# Altium schematic symbol library Componentes_SOC.SchLib: 216 symbols (part 1 of 3)
Pins are listed as number, name and electrical type; pins without a type are passive.

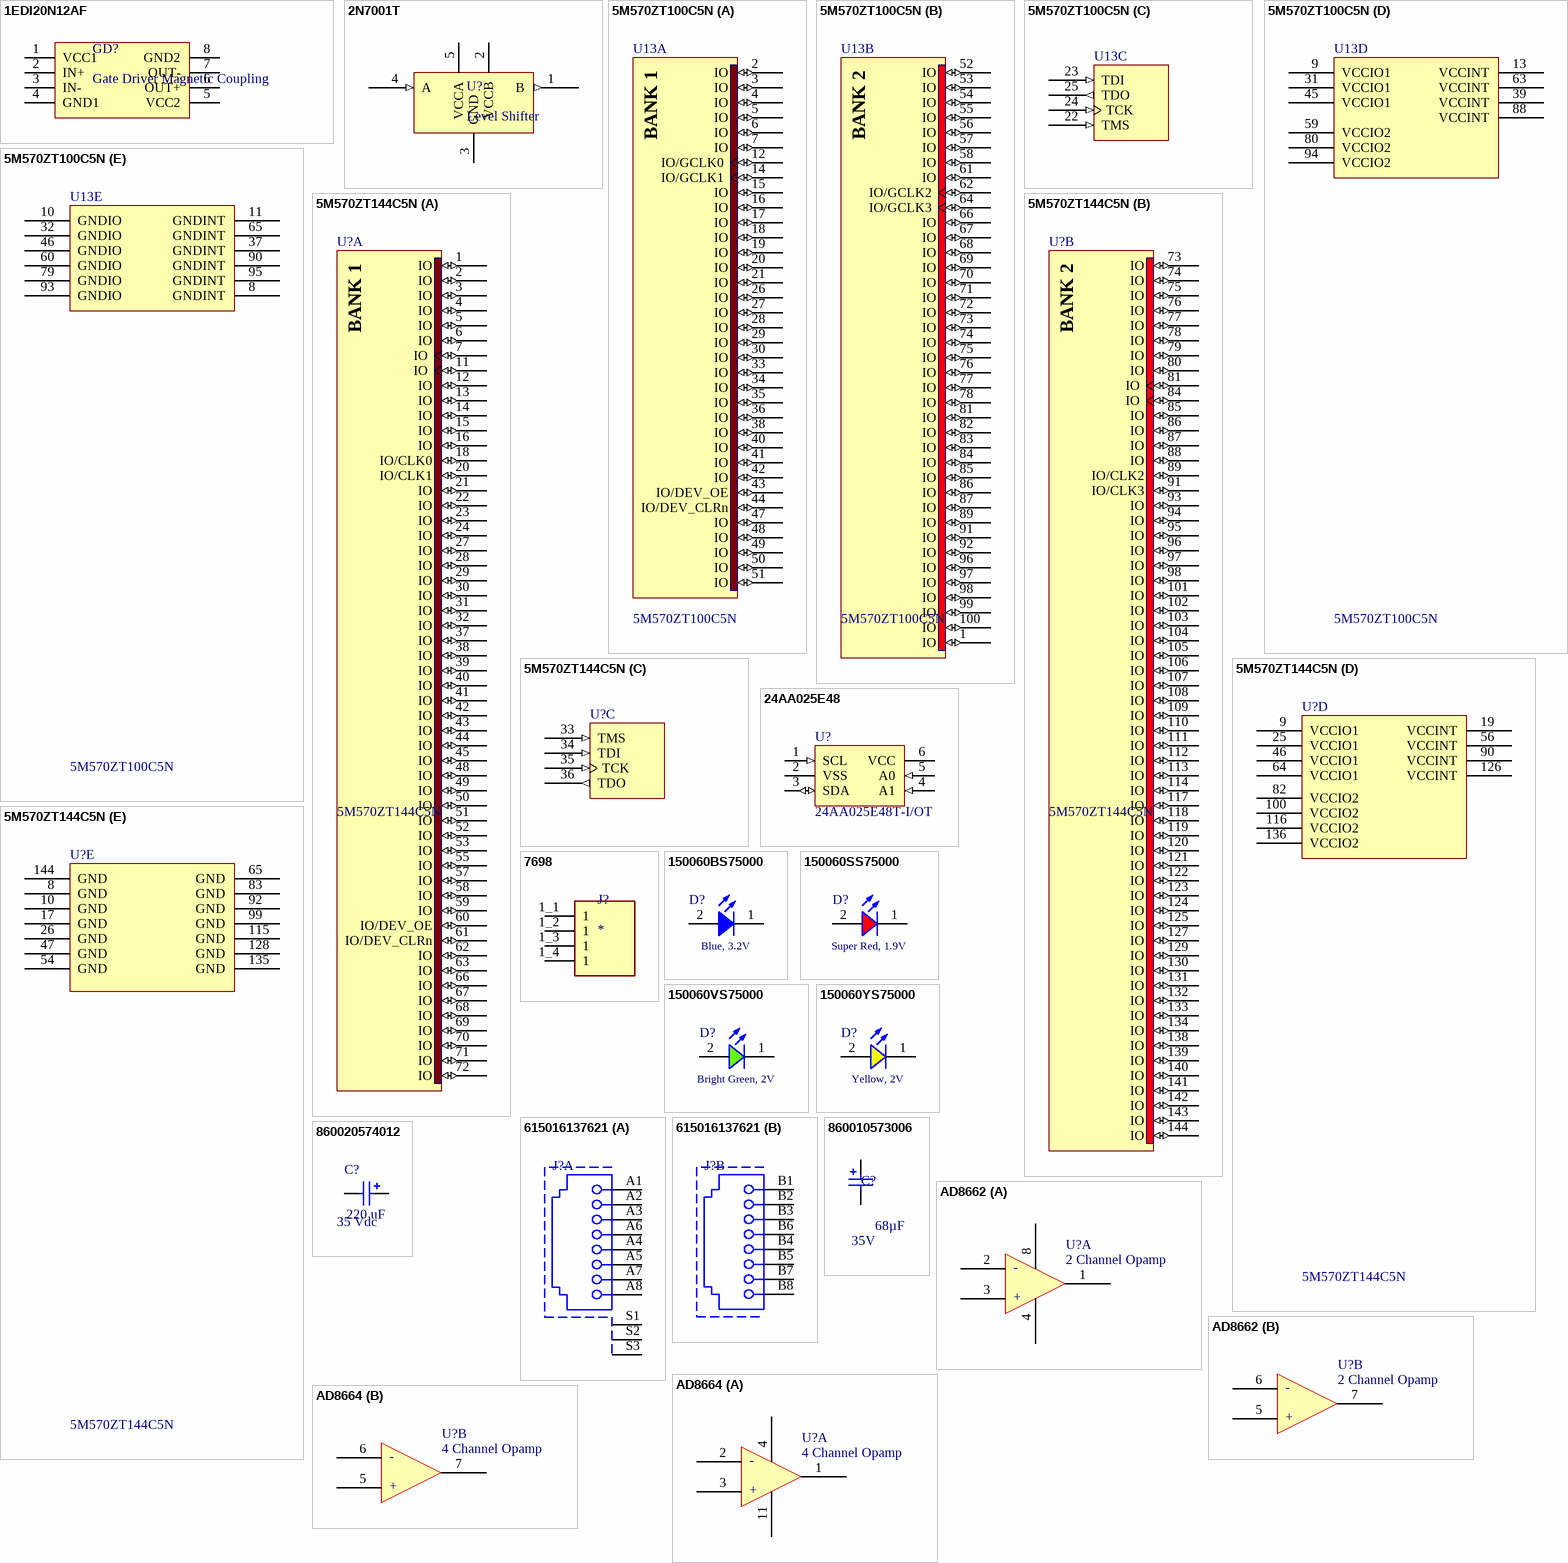
[diagram p0: symbols 1EDI20N12AF to AD8664]

## 1EDI20N12AF
designator GD?, comment Gate Driver Magnetic Coupling
GateDriver; Manufacturer Part-Number: 1EDI20N12AFXUMA1; Digikey Part-Number: 1EDI20N12AFXUMA1CT-ND
footprint SOIC8_N (SOIC, 8-Leads, Body 4.9x3.9mm, Pitch 1.27mm, IPC Medium Density)
pins: 1 VCC1, 2 IN+, 3 IN-, 4 GND1, 5 VCC2, 6 OUT+, 7 OUT-, 8 GND2

## 2N7001T
designator U?, comment Level Shifter
Single-Bit Dual-Supply Buffered Voltage Signal Converter; MPN: 2N7001TDCKR; Suppllier Part Number 1: 296-50213-1-ND; MF: Texas Instruments; Created: 2020_04_Kreppel; Supplier 1: Digikey; Package: SC70
footprint TSOP65P210X110-5N (TSOP, 5-Leads, Body 2,00x1,25mm, Pitch 0,65mm, IPC Medium Density)
pins: 1 B (out), 2 VCCB (power), 3 GND (power), 4 A (in), 5 VCCA (power)

## 5M570ZT100C5N
designator U13
MAX V CPLD 440MC 9NS 100TQFP; Digikey Part-Number: 544-2839-ND; Manufacturer Part-Number: 5M570ZT100C5N
footprint TQFP100_N (Thin QFP, 100-Leads, Body 14x14mm, Pitch 0.5mm, IPC Medium Density)
footprint TQFP100_L (Thin QFP, 100-Leads, Body 14x14mm, Pitch 0.5mm, IPC High Density)
footprint TQFP100_M (Thin QFP, 100-Leads, Body 14x14mm, Pitch 0.5mm, IPC Low Density)
3D model EPM570-TQFP100 (100-Pin Plastic Thin Quad Flat Pack (TQFP100))
part A pins: 2 IO (io), 3 IO (io), 4 IO (io), 5 IO (io), 6 IO (io), 7 IO (io), 12 IO/GCLK0 (io), 14 IO/GCLK1 (io), 15 IO (io), 16 IO (io), 17 IO (io), 18 IO (io), 19 IO (io), 20 IO (io), 21 IO (io), 26 IO (io), 27 IO (io), 28 IO (io), 29 IO (io), 30 IO (io), 33 IO (io), 34 IO (io), 35 IO (io), 36 IO (io), 38 IO (io), 40 IO (io), 41 IO (io), 42 IO (io), 43 IO/DEV_OE (io), 44 IO/DEV_CLRn (io), 47 IO (io), 48 IO (io), 49 IO (io), 50 IO (io), 51 IO (io)
part B pins: 1 IO (io), 52 IO (io), 53 IO (io), 54 IO (io), 55 IO (io), 56 IO (io), 57 IO (io), 58 IO (io), 61 IO (io), 62 IO/GCLK2 (io), 64 IO/GCLK3 (io), 66 IO (io), 67 IO (io), 68 IO (io), 69 IO (io), 70 IO (io), 71 IO (io), 72 IO (io), 73 IO (io), 74 IO (io), 75 IO (io), 76 IO (io), 77 IO (io), 78 IO (io), 81 IO (io), 82 IO (io), 83 IO (io), 84 IO (io), 85 IO (io), 86 IO (io), 87 IO (io), 89 IO (io), 91 IO (io), 92 IO (io), 96 IO (io), 97 IO (io), 98 IO (io), 99 IO (io), 100 IO (io)
part C pins: 22 TMS (in), 23 TDI (in), 24 TCK (in), 25 TDO (out)
part D pins: 9 VCCIO1 (power), 13 VCCINT (power), 31 VCCIO1 (power), 39 VCCINT (power), 45 VCCIO1 (power), 59 VCCIO2 (power), 63 VCCINT (power), 80 VCCIO2 (power), 88 VCCINT (power), 94 VCCIO2 (power)
part E pins: 8 GNDINT (power), 10 GNDIO (power), 11 GNDINT (power), 32 GNDIO (power), 37 GNDINT (power), 46 GNDIO (power), 60 GNDIO (power), 65 GNDINT (power), 79 GNDIO (power), 90 GNDINT (power), 93 GNDIO (power), 95 GNDINT (power)
part A text: BANK 1
part B text: BANK 2

## 5M570ZT144C5N
designator U?
MAX V CPLD 440MC 9NS 144TQFP; Digikey Part-Number: 544-2720-ND; Manufacturer Part-Number: 5M570ZT144C5N
footprint 144-TQFP (Pitch 0.5mm)
footprint TQFP100_L (Thin QFP, 100-Leads, Body 14x14mm, Pitch 0.5mm, IPC High Density)
footprint TQFP100_M (Thin QFP, 100-Leads, Body 14x14mm, Pitch 0.5mm, IPC Low Density)
3D model EPM570-TQFP100 (100-Pin Plastic Thin Quad Flat Pack (TQFP100))
part A pins: 1 IO (io), 2 IO (io), 3 IO (io), 4 IO (io), 5 IO (io), 6 IO (io), 7 IO (io), 11 IO (io), 12 IO (io), 13 IO (io), 14 IO (io), 15 IO (io), 16 IO (io), 18 IO/CLK0 (io), 20 IO/CLK1 (io), 21 IO (io), 22 IO (io), 23 IO (io), 24 IO (io), 27 IO (io), 28 IO (io), 29 IO (io), 30 IO (io), 31 IO (io), 32 IO (io), 37 IO (io), 38 IO (io), 39 IO (io), 40 IO (io), 41 IO (io), 42 IO (io), 43 IO (io), 44 IO (io), 45 IO (io), 48 IO (io), 49 IO (io), 50 IO (io), 51 IO (io), 52 IO (io), 53 IO (io), 55 IO (io), 57 IO (io), 58 IO (io), 59 IO (io), 60 IO/DEV_OE (io), 61 IO/DEV_CLRn (io), 62 IO (io), 63 IO (io), 66 IO (io), 67 IO (io), 68 IO (io), 69 IO (io), 70 IO (io), 71 IO (io), 72 IO (io)
part B pins: 73 IO (io), 74 IO (io), 75 IO (io), 76 IO (io), 77 IO (io), 78 IO (io), 79 IO (io), 80 IO (io), 81 IO (io), 84 IO (io), 85 IO (io), 86 IO (io), 87 IO (io), 88 IO (io), 89 IO/CLK2 (io), 91 IO/CLK3 (io), 93 IO (io), 94 IO (io), 95 IO (io), 96 IO (io), 97 IO (io), 98 IO (io), 101 IO (io), 102 IO (io), 103 IO (io), 104 IO (io), 105 IO (io), 106 IO (io), 107 IO (io), 108 IO (io), 109 IO (io), 110 IO (io), 111 IO (io), 112 IO (io), 113 IO (io), 114 IO (io), 117 IO (io), 118 IO (io), 119 IO (io), 120 IO (io), 121 IO (io), 122 IO (io), 123 IO (io), 124 IO (io), 125 IO (io), 127 IO (io), 129 IO (io), 130 IO (io), 131 IO (io), 132 IO (io), 133 IO (io), 134 IO (io), 138 IO (io), 139 IO (io), 140 IO (io), 141 IO (io), 142 IO (io), 143 IO (io), 144 IO (io)
part C pins: 33 TMS (in), 34 TDI (in), 35 TCK (in), 36 TDO (out)
part D pins: 9 VCCIO1 (power), 19 VCCINT (power), 25 VCCIO1 (power), 46 VCCIO1 (power), 56 VCCINT (power), 64 VCCIO1 (power), 82 VCCIO2 (power), 90 VCCINT (power), 100 VCCIO2 (power), 116 VCCIO2 (power), 126 VCCINT (power), 136 VCCIO2 (power)
part E pins: 8 GND (power), 10 GND (power), 17 GND (power), 26 GND (power), 47 GND (power), 54 GND (power), 65 GND (power), 83 GND (power), 92 GND (power), 99 GND (power), 115 GND (power), 128 GND (power), 135 GND (power), 144 GND (power)
part A text: BANK 1
part B text: BANK 2

## 24AA025E48
designator U?, comment 24AA025E48T-I/OT
IC EEPROM 2K I2C 400KHZ SOT23-6; AN: 26249; Mixed: SMT; Case: SOT23-6; HelpURL: B:\AD\adlib\datasheet\24AA02xExx; H-ART: 24AA025E48T-I/OT; Digikey Part-Number: 24AA025E48T-I/OTCT-ND; Manufacturer Part-Number: 24AA025E48T-I/OT
footprint SOT23-6
pins: 1 SCL (in), 2 VSS (power), 3 SDA (io), 4 A1 (in), 5 A0 (in), 6 VCC (power)

## 7698
designator J?
Screw Terminal;Nickel;15 Amp;Snap-In;Vertical;Unassembled;M3 Thrd | Keystone Electronics 7698; MP: 7698; SnapEDA_Link: https://www.snapeda.com/parts/7698/Keystone/view-part/?ref=snap; Package: None; Value: *; MF: Keystone; Check_prices: https://www.snapeda.com/parts/7698/Keystone/view-part/?ref=eda
footprint KEYSTONE_7698
pins: 1_1 1, 1_2 1, 1_3 1, 1_4 1

## 150060BS75000
designator D?, comment Blue, 3.2V
WL-SMCW SMT Mono-color Chip LED Waterclear, size 0603, Blue, 3.2V, 140deg; MPN: 150060BS75000; Chip Technology: InGaN; Dominant Wavelength typ.: 470nm; Luminous Intensity typ.: 145mcd; Peak Wavelength typ.: 465nm; MF: Wurth Elektronik; Viewing Angle: 140deg; ComponentLink1Description: Manufacturer; ComponentLink1URL: http://www.we-online.de; ComponentLink2URL: https://www.we-online.com/catalog/datasheet/150060BS75000.pdf; ComponentLink2Description: Datasheet; Forward Voltage typ.: 3.2V; Emitting Color: Blue; Mounting Technology: SMT; Operating Temperature: -40 to +85degC; Published Date: December 2019; Packaging: Tape and Reel; Size: 0603; Supplier 1: Digikey; Supplier Part Number 1: 732-4966-1-ND
footprint WL-SMCW_0603_H=0.7mm
pins: 1 K, 2 A

## 150060SS75000
designator D?, comment Super Red, 1.9V
WL-SMCW SMT Mono-color Chip LED Waterclear, size 0603, Super Red, 1.9V, 140deg; MPN: 150060SS75000; Chip Technology: AlInGaP; Dominant Wavelength typ.: 630nm; Luminous Intensity typ.: 60mcd; Peak Wavelength typ.: 645nm; MF: Wurth Elektronik; Viewing Angle: 140deg; ComponentLink1Description: Manufacturer; ComponentLink1URL: http://www.we-online.de; ComponentLink2URL: https://www.we-online.com/catalog/datasheet/150060SS75000.pdf; ComponentLink2Description: Datasheet; Forward Voltage typ.: 1.9V; Emitting Color: Super Red; Mounting Technology: SMT; Operating Temperature: -40 to +85degC; Published Date: December 2019; Packaging: Tape and Reel; Size: 0603; Supplier 1: Digikey; Supplier Part Number 1: 732-4979-1-ND
footprint WL-SMCW_0603_H=0.7mm
pins: 1 K, 2 A

## 150060VS75000
designator D?, comment Bright Green, 2V
WL-SMCW SMT Mono-color Chip LED Waterclear, size 0603, Bright Green, 2V, 140deg; MPN: 150060VS75000; Chip Technology: AlInGaP; Dominant Wavelength typ.: 570nm; Luminous Intensity typ.: 40mcd; Peak Wavelength typ.: 572nm; MF: Wurth Elektronik; Viewing Angle: 140deg; ComponentLink1Description: Manufacturer; ComponentLink1URL: http://www.we-online.de; ComponentLink2URL: https://www.we-online.com/catalog/datasheet/150060VS75000.pdf; ComponentLink2Description: Datasheet; Forward Voltage typ.: 2V; Emitting Color: Bright Green; Mounting Technology: SMT; Operating Temperature: -40 to +85degC; Published Date: December 2019; Packaging: Tape and Reel; Size: 0603; Supplier 1: Digikey; Supplier Part Number 1: 732-4980-1-ND
footprint WL-SMCW_0603_H=0.7mm
pins: 1 K, 2 A

## 150060YS75000
designator D?, comment Yellow, 2V
WL-SMCW SMT Mono-color Chip LED Waterclear, size 0603, Yellow, 2V, 140deg; MPN: 150060YS75000; Chip Technology: AlInGaP; Dominant Wavelength typ.: 590nm; Luminous Intensity typ.: 120mcd; Peak Wavelength typ.: 595nm; MF: Wurth Elektronik; Viewing Angle: 140deg; ComponentLink1Description: Manufacturer; ComponentLink1URL: http://www.we-online.de; ComponentLink2URL: https://www.we-online.com/catalog/datasheet/150060YS75000.pdf; ComponentLink2Description: Datasheet; Forward Voltage typ.: 2V; Emitting Color: Yellow; Mounting Technology: SMT; Operating Temperature: -40 to +85degC; Published Date: December 2019; Packaging: Tape and Reel; Size: 0603; Supplier 1: Digikey; Supplier Part Number 1: 732-4981-1-ND
footprint WL-SMCW_0603_H=0.7mm (Footprint not found)
pins: 1 K, 2 A

## 615016137621
designator J?
Modular Jack WR-MJ, Tab Down, Shielded, Dual Port, Horizontal Entry, THT, 8P8C; MPN: 615016137621; MF: Wurth Elektronik; Port: 1x2; Compliance: Lead free / RoHS; Rated Current: 1.5 A; Working Voltage: 120 VAC; Withstanding Voltage: 1000 VAC; Contact Resistance: 20 mOhm; ComponentLink1Description: Manufacturer; ComponentLink1URL: http://www.we-online.de; ComponentLink2Description: Datasheet; ComponentLink2URL: https://katalog.we-online.de/em/datasheet/615016137621.pdf; Published Date: July 2018; Pin Number: 8P8C; Operating Temperature: -40 to 85 degC; Mounting Technology: THT; Packaging: Tray; Entrance: Horizontal; Supplier 1: Farnell; Supplier 2: Mouser; Supplier 3: Digi-Key; Supplier Part Number 1: 1841174; Supplier Part Number 2: 710-615016137621; Supplier Part Number 3: 732-2744-ND
footprint 615016137621 (Modular Jack Horizontal Shielded Dual Port 8P8C Tab Down)
part A pins: A1, A2, A3, A4, A5, A6, A7, A8, S1, S2, S3
part B pins: B1, B2, B3, B4, B5, B6, B7, B8

## 860010573006
designator C?, comment 68µF  Rated Voltage: 35V
WCAP-ATG8 THT Aluminum Electrolytic Capacitors, D6.3mm x L11mm, 68uF, +/-20%, 35VDC; Part Number: 860010573006; Dissipation Factor: 12%; Endurance: 2000h; Leakage Current: 23.8uA; Ripple Current max.: 198mA; Technical Reference: ATBD110680M035DSPA4B000; ComponentLink1Description: Manufacturer; ComponentLink1URL: http://www.we-online.de; ComponentLink2Description: Datasheet; ComponentLink2URL: https://katalog.we-online.com/pbs/datasheet/860010573006.pdf; Length: 11mm; Mounting Technology: THT; Operating Temperature: -40 to +85degC; Packaging: Ammo Pack; Published Date: August 2019; Value: 68µF; Diameter: 6.3mm; Publisher: Wurth Elektronik; Capacitance Tolerance: +/-20%; Supplier 1: Digikey; Supplier Part Number 1: 732-8736-1-ND
footprint WCAP-ATG8_6.3x11
pins: 1 N, 2 P

## 860020574012
designator C?, comment 220 uF  Voltage: 35 Vdc
WCAP-ATG5 Aluminum Electrolytic Capacitors, 8x11.5mm, 35 Vdc, 220 uF; Part Number: 860020574012; MF: Wurth Elektronik; ComponentLink1Description: Manufacturer; ComponentLink1URL: http://www.we-online.de; ComponentLink2Description: Datasheet; ComponentLink2URL: http://katalog.we-online.com/pbs/datasheet/860020574012.pdf; Published Date: Sep. 2017; Size: 8x11.5mm; Life Cycle: 2000h; Operating Temperature: -40 °C up to +105 °C; Value: 220 uF; MPN: 860020574012; Supplier 1: Mouser; Supplier Part Number 1: 710-860020574012
footprint WCAP-ATG5_8x11.5x3.5
pins: 1 P, 2 N

## AD8662
designator U?, comment 2 Channel Opamp
IC OPAMP GP 2 CIRCUIT 14SOIC; Manufacturer Part-Number: AD8662ARZ-REEL7; Digikey Part-Number: AD8662ARZ-REEL7CT-ND
footprint SOIC8_N (SOIC, 8-Leads, Body 4.9x3.9mm, Pitch 1.27mm, IPC Medium Density)
part A pins: 1 out a, 2 -in a, 3 +in a, 4 v+, 8 v-
part B pins: 5 +in b, 6 -in b, 7 out b
part A text: -; +
part B text: -; +

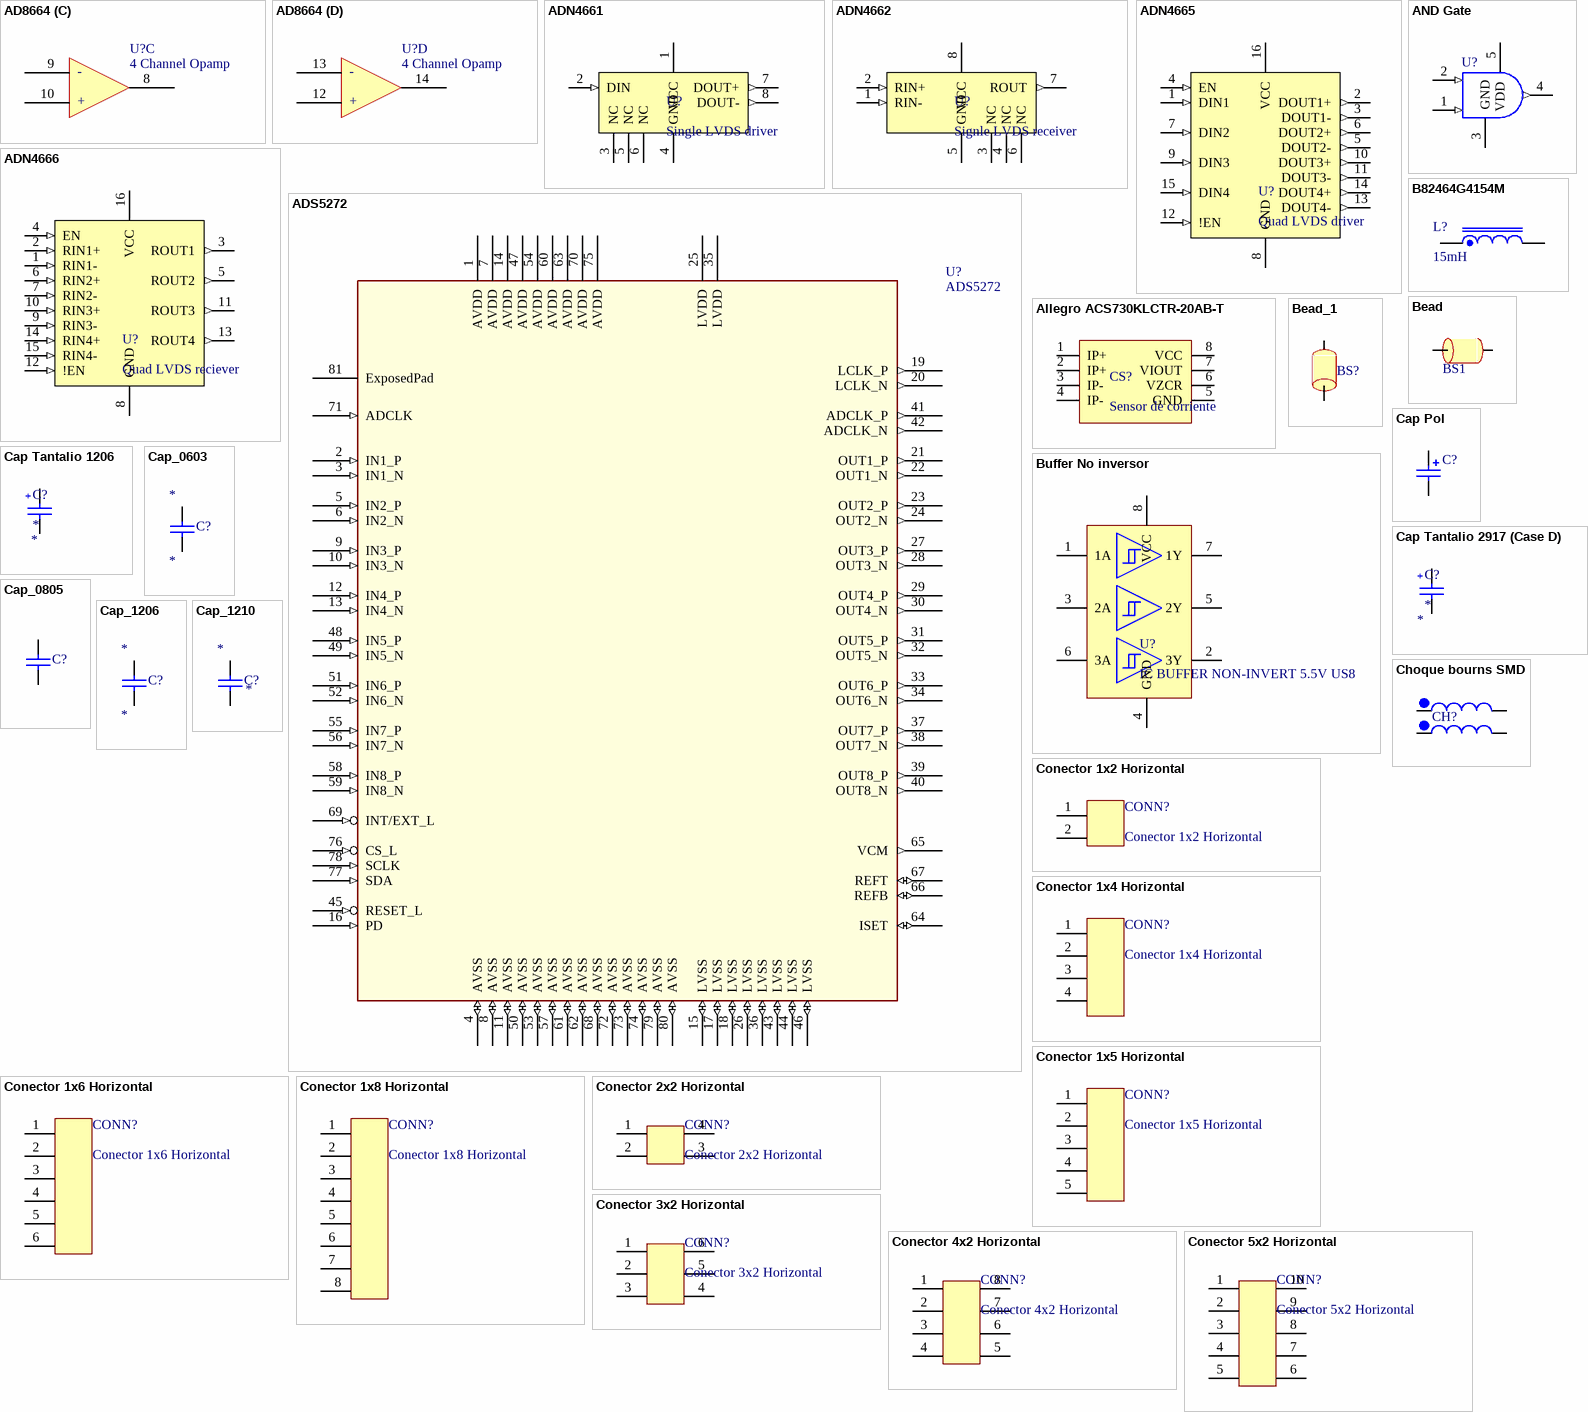
[diagram p1: symbols AD8664 to Conector 5x2 Horizontal]

## AD8664
designator U?, comment 4 Channel Opamp
IC OPAMP GP 4 CIRCUIT 14SOIC; Manufacturer Part-Number: AD8664ARZ; Digikey Part-Number: AD8664ARZ-ND
footprint SOIC-14 (SOIC, 14-Leads, Body 8.7x3.9mm, Pitch 1.27mm, IPC Medium Density)
part A pins: 1 out a, 2 -in a, 3 +in a, 4 v+, 11 v-
part B pins: 5 +in b, 6 -in b, 7 out b
part C pins: 8 out c, 9 -in c, 10 +in c
part D pins: 12 +in d, 13 -in d, 14 out d
part A text: -; +
part B text: -; +
part C text: -; +
part D text: -; +

## ADN4661
designator U?, comment Single LVDS driver
Single, 3V, CMOS, LVDS High Speed differential driver; MPN: ADN4661BRZ; MF: Analog Devices; Created: 2020_05_Kreppel; Supplier 1: Digikey; Supplier Part Number 1: ADN4661BRZ-ND
footprint SOIC127P600X170_HS-9N_no_THP (SOIC, 8-Leads, Body 4,90x3,90mm, Pitch 1,27mm, Thermal Pad 3,10x2,60mm, IPC Medium Density)
pins: 1 VCC (power), 2 DIN (in), 3 NC, 4 GND (power), 5 NC, 6 NC, 7 DOUT+ (out), 8 DOUT- (out)

## ADN4662
designator U?, comment Signle LVDS receiver
Single, 3V, CMOS, LVDS High Speed Differential Receiver; MPN: ADN4662BRZ; MF: Analog Devices; Created: 2020_05_Kreppel; Supplier 1: Digikey; Supplier Part Number 1: ADN4662BRZ-ND
footprint SOIC127P600X170_HS-9N_no_THP (SOIC, 8-Leads, Body 4,90x3,90mm, Pitch 1,27mm, Thermal Pad 3,10x2,60mm, IPC Medium Density)
pins: 1 RIN- (in), 2 RIN+ (in), 3 NC, 4 NC, 5 GND (power), 6 NC, 7 ROUT (out), 8 VCC (power)

## ADN4665
designator U?, comment Quad LVDS driver
3V, LVDS, Quad, CMOS Differential Line Driver; MPN: ADN4665ARUZ; MF: Analog Devices; Created: 2020_05_Kreppel; Supplier 1: Digikey; Supplier Part Number 1: ADN4665ARUZ-ND
footprint TSOP65P640X120-16N (TSOP, 16-Leads, Body 5,00x4,40mm, Pitch 0,65mm, IPC Medium Density)
pins: 1 DIN1 (in), 2 DOUT1+ (out), 3 DOUT1- (out), 4 EN (in), 5 DOUT2- (out), 6 DOUT2+ (out), 7 DIN2 (in), 8 GND (power), 9 DIN3 (in), 10 DOUT3+ (out), 11 DOUT3- (out), 12 !EN (in), 13 DOUT4- (out), 14 DOUT4+ (out), 15 DIN4 (in), 16 VCC (power)

## ADN4666
designator U?, comment Quad LVDS reciever
3V, LVDS, quad, CMOS Differential Line Receiver; MPN: ADN4666ARUZ; MF: Analog Devices; Created: 2020_05_Kreppel; Supplier 1: Digikey; Supplier Part Number 1: ADN4666ARUZ-ND
footprint TSOP65P640X120-16N (TSOP, 16-Leads, Body 5,00x4,40mm, Pitch 0,65mm, IPC Medium Density)
pins: 1 RIN1- (in), 2 RIN1+ (in), 3 ROUT1 (out), 4 EN (in), 5 ROUT2 (out), 6 RIN2+ (in), 7 RIN2- (in), 8 GND (power), 9 RIN3- (in), 10 RIN3+ (in), 11 ROUT3 (out), 12 !EN (in), 13 ROUT4 (out), 14 RIN4+ (in), 15 RIN4- (in), 16 VCC (power)

## ADS5272
designator U?
Manufacturer Part-Number: ADS5272IPFP; Digikey Part-Number: 296-18605-ND
footprint TSQFP50P1400X1400_HS-80M (80-Pin Plastic Quad Flat Pack PowerPAD)
pins: 1 AVDD (power), 2 IN1_P (in), 3 IN1_N (in), 4 AVSS (io), 5 IN2_P (in), 6 IN2_N (in), 7 AVDD (power), 8 AVSS (io), 9 IN3_P (in), 10 IN3_N (in), 11 AVSS (io), 12 IN4_P (in), 13 IN4_N (in), 14 AVDD (power), 15 LVSS (io), 16 PD (in), 17 LVSS (io), 18 LVSS (io), 19 LCLK_P (out), 20 LCLK_N (out), 21 OUT1_P (out), 22 OUT1_N (out), 23 OUT2_P (out), 24 OUT2_N (out), 25 LVDD (power), 26 LVSS (io), 27 OUT3_P (out), 28 OUT3_N (out), 29 OUT4_P (out), 30 OUT4_N (out), 31 OUT5_P (out), 32 OUT5_N (out), 33 OUT6_P (out), 34 OUT6_N (out), 35 LVDD (power), 36 LVSS (io), 37 OUT7_P (out), 38 OUT7_N (out), 39 OUT8_P (out), 40 OUT8_N (out), 41 ADCLK_P (out), 42 ADCLK_N (out), 43 LVSS (io), 44 LVSS (io), 45 RESET_L (in), 46 LVSS (io), 47 AVDD (power), 48 IN5_P (in), 49 IN5_N (in), 50 AVSS (io), 51 IN6_P (in), 52 IN6_N (in), 53 AVSS (io), 54 AVDD (power), 55 IN7_P (in), 56 IN7_N (in), 57 AVSS (io), 58 IN8_P (in), 59 IN8_N (in), 60 AVDD (power), 61 AVSS (io), 62 AVSS (io), 63 AVDD (power), 64 ISET (io), 65 VCM (out), 66 REFB (io), 67 REFT (io), 68 AVSS (io), 69 INT/EXT_L (in), 70 AVDD (power), 71 ADCLK (in), 72 AVSS (io), 73 AVSS (io), 74 AVSS (io), 75 AVDD (power), 76 CS_L (in), 77 SDA (in), 78 SCLK (in), 79 AVSS (io), 80 AVSS (io), 81 ExposedPad

## Allegro ACS730KLCTR-20AB-T
designator CS?, comment Sensor de corriente
Manufacturer Part-Number: ACS730KLCTR-20AB-T; Digikey Part-Number: 620-1792-1-ND
footprint SOIC8_N (SOIC, 8-Leads, Body 4.9x3.9mm, Pitch 1.27mm, IPC Medium Density)
pins: 1 IP+, 2 IP+, 3 IP-, 4 IP-, 5 GND, 6 VZCR, 7 VIOUT, 8 VCC

## AND Gate
designator U?
2-Input AND Gate; Manufacturer Part-Number: SN74LVC1G08DBVR; Digikey Part-Number: 296-11601-1-ND
footprint SOT-23-5 (SOT353, 5-Leads, Body 2x1.3mm, Pitch 0.65mm, Lead Span 2.1mm, IPC Medium Density)
pins: 1 B (in), 2 A (in), 3 GND (power), 4 Y (out), 5 VDD (power)

## B82464G4154M
designator L?, comment 15mH
SMT power Inductor, 15uH, 40m DRC; MPN: 48150SC; MF: Murata; Rated Current: 3.7 A; Supplier 1: Digikey; Supplier Part Number 1: 811-3837-1-ND; Value: 15mH; DCR: 40m
footprint SMT_inductor_1050_Performance (SMD Shielded Power Inductor, 2-leads, body 10.3x10.5mm)
pins: 1, 2

## Bead
designator BS1, comment Ferrite bead  (value not drawn)
6A; Manufacturer Part-Number: HI1206T500R-10; Digikey Part-Number: 240-2412-1-ND
footprint RES_1206 (RES 1206)
pins: 1, 2

## Bead_1
designator BS?, comment Ferrite bead  (value not drawn)
1.7A; Manufacturer Part-Number: BKP1608HS101-T; Digikey Part-Number: 587-1922-1-ND
footprint RES_0603 (RES 0603)
pins: 1, 2

## Buffer No inversor
designator U?, comment IC BUFFER NON-INVERT 5.5V US8
3 Channels; Manufacturer Part-Number: SN74LVC3G17DCUR; Digikey Part-Number: 296-18818-1-ND
footprint 8-VSSOP (VSSOP, 8 Leads, Pitch 0.5mm)
pins: 1 1A, 2 3Y, 3 2A, 4 GND, 5 2Y, 6 3A, 7 1Y, 8 VCC
2 alternate drawings of the same symbol

## Cap Pol
designator C?
Polarized Capacitor (Radial); Published: 8-Jun-2000; LatestRevisionDate: 17-Jul-2002; LatestRevisionNote: Re-released for DXP Platform.; PackageReference: RB7.6-15; Publisher: Altium Limited; PackageDescription: Polarized Capacitor (Radial); 2 Leads
simulation model CAP (Capacitor)
signal-integrity model Cap Pol
footprint CAP Electrolítico Radial SMD2 (Mediano)
pins: 1, 2
1 alternate drawing of the same symbol

## Cap Tantalio 1206
designator C?
Capacitor Tantalio; Digikey Part-Number: *; Manufacturer Part-Number: *; Value: *; Voltage: *
footprint CAP_1206 Tantalio (Case A)
pins: 1, 2
text: +

## Cap Tantalio 2917 (Case D)
designator C?
Capacitor Tantalio; Digikey Part-Number: *; Manufacturer Part-Number: *; Value: *; Voltage: *
footprint CAP_2917 Tantalio (Case D)
pins: 1, 2
text: +

## Cap_0603
designator C?
Capacitor Ceramic; Digikey Part-Number: *; Manufacturer Part-Number: *; Value: *; Voltage: *
simulation model CAP (Capacitor)
signal-integrity model Cap
footprint CAP_0603 (CAP CER 0603)
pins: 1, 2

## Cap_0805
designator C?
Capacitor
simulation model CAP (Capacitor)
signal-integrity model Cap
footprint CAP_0805 (CAP CER 0805)
pins: 1, 2

## Cap_1206
designator C?
Capacitor; Digikey Part-Number: *; Value: *; Manufacturer Part-Number: *; Voltage: *
simulation model CAP (Capacitor)
signal-integrity model Cap
footprint RES_1206 (RES 1206)
pins: 1, 2

## Cap_1210
designator C?
Capacitor; Published: 8-Jun-2000; LatestRevisionDate: 17-Jul-2002; LatestRevisionNote: Re-released for DXP Platform.; PackageReference: RAD-0.3; Publisher: Altium Limited; Digikey Part-Number: *; Manufacturer Part-Number: *; Value: *; Voltage: *
simulation model CAP (Capacitor)
signal-integrity model Cap
footprint Cap_1210 (1210 SMD)
pins: 1, 2

## Choque bourns SMD
designator CH?
1.5A; Manufacturer Part-Number: SRF0504-102Y; Digikey Part-Number: SRF0504-102YCT-ND
simulation model INDUCTOR (Inductor)
signal-integrity model Inductor
footprint Choque SMD (SRF0504-102Y)
pins: 1, 2, 3, 4

## Conector 1x2 Horizontal
designator CONN?
CONN HEADER R/A 2POS 2.54MM Through Hole; Manufacturer Part-Number: IPL1-102-01-S-S-RA-K; Digikey Part-Number: SAM12667-ND
footprint Conector 1x2 TH Horizontal (Pitch 2.54mm P/N: IPL1-102-01-S-S-RA-K)
pins: 1, 2

## Conector 1x4 Horizontal
designator CONN?
CONN HEADER R/A 4POS 2.54MM Through Hole; Manufacturer Part-Number: IPL1-104-01-L-S-RA-K; Digikey Part-Number: SAM9597-ND
footprint Conector 1x4 TH Horizontal (Pitch 2.54mm P/N: IPL1-104-01-L-S-RA-K)
pins: 1, 2, 3, 4

## Conector 1x5 Horizontal
designator CONN?
CONN HEADER R/A 5POS 2.54MM Through Hole; Manufacturer Part-Number: IPL1-105-01-L-S-RA-K; Digikey Part-Number: SAM10578-ND
footprint Conector 1x5 TH Horizontal (Pitch 2.54mm P/N: IPL1-105-01-L-S-RA-K)
pins: 1, 2, 3, 4, 5

## Conector 1x6 Horizontal
designator CONN?
CONN HEADER R/A 6POS 2.54MM Through Hole; Manufacturer Part-Number: IPL1-106-01-L-S-RA-K; Digikey Part-Number: SAM9602-ND
footprint Conector 1x6 TH Horizontal (Pitch 2.54mm P/N: IPL1-106-01-L-S-RA-K)
pins: 1, 2, 3, 4, 5, 6

## Conector 1x8 Horizontal
designator CONN?
CONN HEADER R/A 8POS 2.54MM Through Hole; Manufacturer Part-Number: IPL1-108-01-L-S-RA-K; Digikey Part-Number: SAM11427-ND
footprint Conector 1x8 TH Horizontal (Pitch 2.54mm P/N: IPL1-108-01-L-S-RA-K)
pins: 1, 2, 3, 4, 5, 6, 7, 8

## Conector 2x2 Horizontal
designator CONN?
CONN HEADER R/A 4 POS 2.54MM Through Hole; Manufacturer Part-Number: IPL1-102-01-L-D-RA-K; Digikey Part-Number: SAM8823-ND
footprint Conector 2x2 TH Horizontal (Pitch 2.54mm P/N: IPL1-102-01-L-D-RA-K)
pins: 1, 2, 3, 4

## Conector 3x2 Horizontal
designator CONN?
CONN HEADER R/A 6 POS 2.54MM Through Hole; Manufacturer Part-Number: IPL1-103-01-L-D-RA-K; Digikey Part-Number: SAM9096-ND
footprint Conector 3x2 TH Horizontal (Pitch 2.54mm P/N: IPL1-103-01-L-D-RA-K)
pins: 1, 2, 3, 4, 5, 6

## Conector 4x2 Horizontal
designator CONN?
CONN HEADER R/A 8POS 2.54MM Through Hole; Manufacturer Part-Number: IPL1-104-01-L-D-RA-K; Digikey Part-Number: SAM9596-ND
footprint Conector 4x2 TH Horizontal (Pitch 2.54mm P/N: IPL1-104-01-L-D-RA-K)
pins: 1, 2, 3, 4, 5, 6, 7, 8

## Conector 5x2 Horizontal
designator CONN?
CONN HEADER R/A 10 POS 2.54MM Through Hole; Manufacturer Part-Number: IPL1-105-01-L-D-RA-K; Digikey Part-Number: SAM10576-ND
footprint Conector 5x2 TH Horizontal (Pitch 2.54mm P/N: IPL1-105-01-L-D-RA-K)
pins: 1, 2, 3, 4, 5, 6, 7, 8, 9, 10

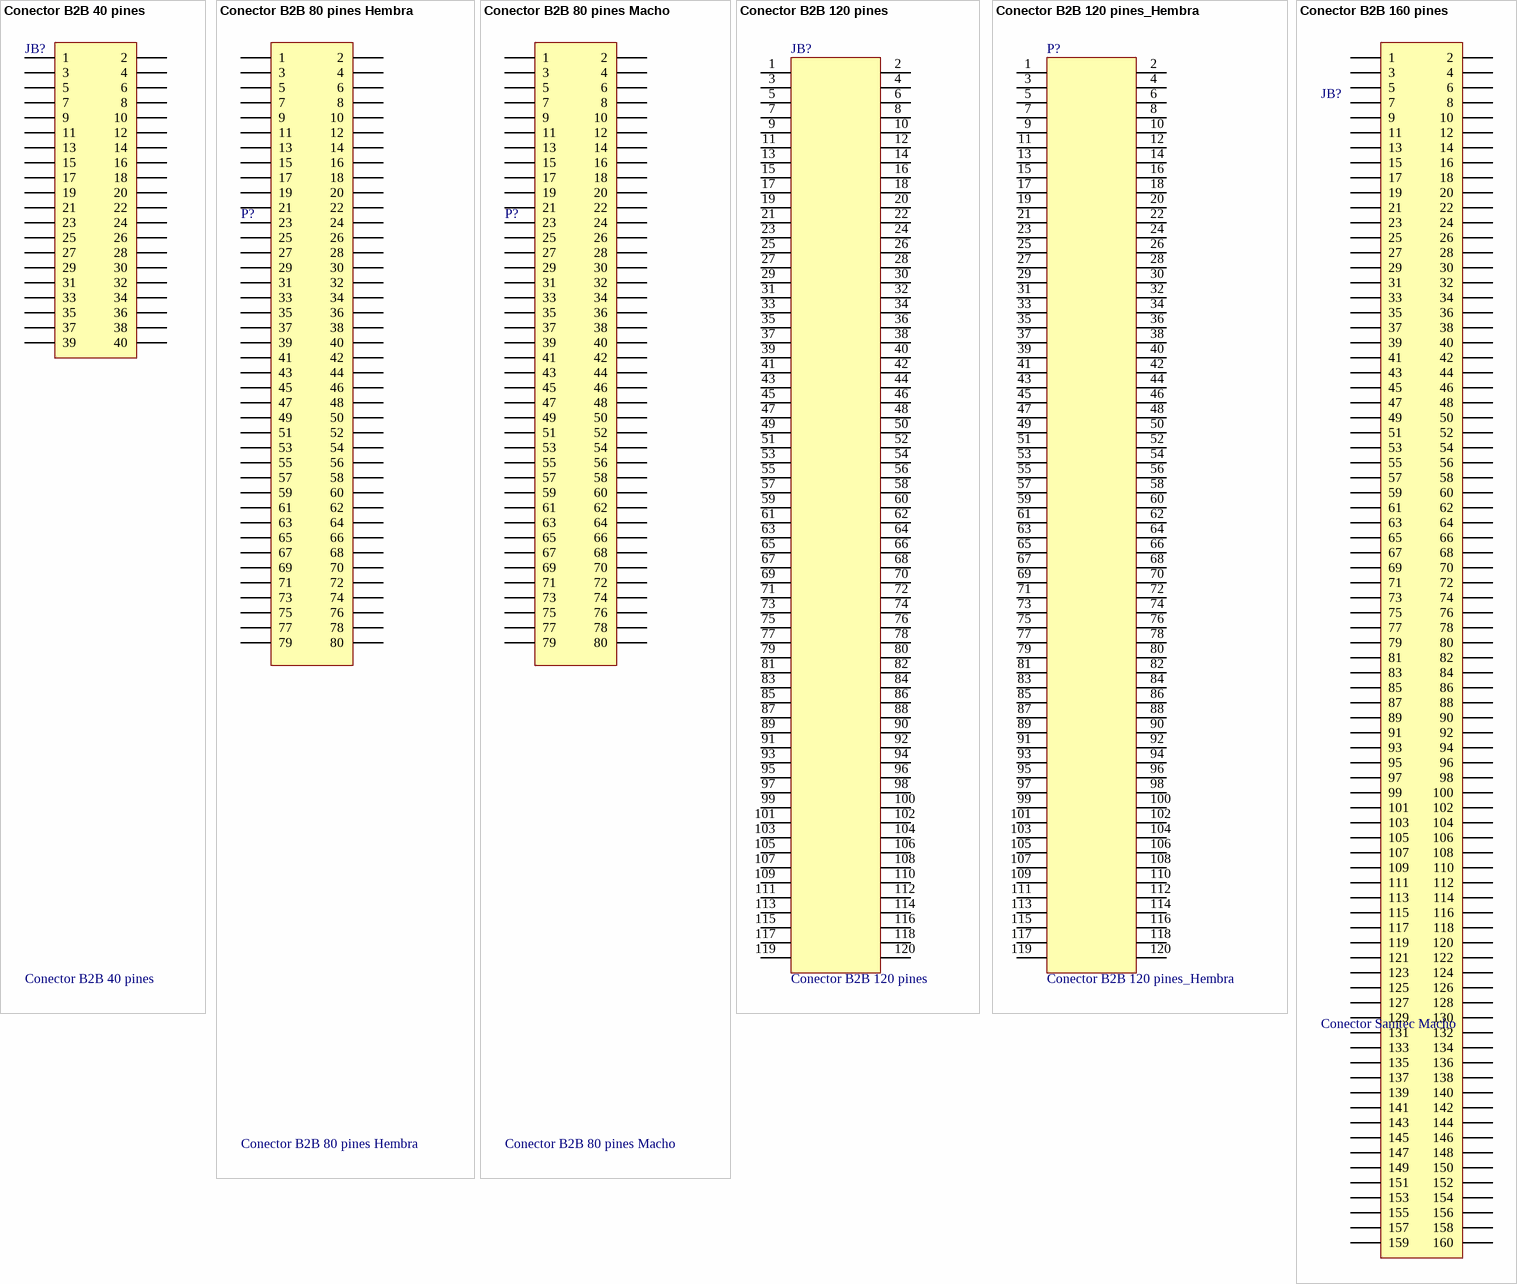
[diagram p2: symbols Conector B2B 40 pines to Conector B2B 160 pines]

## Conector B2B 40 pines
designator JB?
Samtec Macho 40 pines Pitch 0.8mm; Manufacturer Part-Number: BSE-020-01-L-D-A; Digikey Part-Number: SAM9179-ND
footprint Conector BSE-020-01-L-D-A (Conector Samtec de 40 pines Pitch 0.8mm Macho)
pins: 1, 2, 3, 4, 5, 6, 7, 8, 9, 10, 11, 12, 13, 14, 15, 16, 17, 18, 19, 20, 21, 22, 23, 24, 25, 26, 27, 28, 29, 30, 31, 32, 33, 34, 35, 36, 37, 38, 39, 40

## Conector B2B 80 pines Hembra
designator P?
Samtec Macho 80 pines Pitch 0.8mm; Manufacturer Part-Number: BTE-040-02-L-D-A; Digikey Part-Number: SAM9191-ND
footprint Conector BTE-040-02-L-D-A (Conector Samtec 80 pines hembra altura 8mm pitch 0.8mm)
pins: 1, 2, 3, 4, 5, 6, 7, 8, 9, 10, 11, 12, 13, 14, 15, 16, 17, 18, 19, 20, 21, 22, 23, 24, 25, 26, 27, 28, 29, 30, 31, 32, 33, 34, 35, 36, 37, 38, 39, 40, 41, 42, 43, 44, 45, 46, 47, 48, 49, 50, 51, 52, 53, 54, 55, 56, 57, 58, 59, 60, 61, 62, 63, 64, 65, 66, 67, 68, 69, 70, 71, 72, 73, 74, 75, 76, 77, 78, 79, 80

## Conector B2B 80 pines Macho
designator P?
Samtec Macho 80 pines Pitch 0.8mm; Manufacturer Part-Number: BSE-040-01-F-D-A; Digikey Part-Number: SAM9180-ND
footprint Conector BSE-040-01-F-D-A (Conector Samtec de 80 pines Pitch 0.8mm Macho)
pins: 1, 2, 3, 4, 5, 6, 7, 8, 9, 10, 11, 12, 13, 14, 15, 16, 17, 18, 19, 20, 21, 22, 23, 24, 25, 26, 27, 28, 29, 30, 31, 32, 33, 34, 35, 36, 37, 38, 39, 40, 41, 42, 43, 44, 45, 46, 47, 48, 49, 50, 51, 52, 53, 54, 55, 56, 57, 58, 59, 60, 61, 62, 63, 64, 65, 66, 67, 68, 69, 70, 71, 72, 73, 74, 75, 76, 77, 78, 79, 80

## Conector B2B 120 pines
designator JB?
Samtec Macho 120 pines Pitch 0.8mm; Manufacturer Part-Number: BSE-060-01-L-D-A; Digikey Part-Number: SAM9181-ND
footprint BSE-060-01-L-D-A (trenz)
pins: 1, 2 E2TXP, 3 DRXCLKN, 4 E2TXN, 5 DRXCLKP, 6 GND, 7 GND, 8 E2RXP, 9 DRX3N, 10 E2RXN, 11 DRX3P, 12 GND, 13 DRX3P, 14 E2LED1, 15 DRX2N, 16 E2LED0, 17 DRX2P, 18 NC, 19 GND, 20 E1TXP, 21 DRX1N, 22 E1TXN, 23 DRX1P, 24 GND, 25 GND, 26 E1RXP, 27 DRX0N, 28 E1RXN, 29 DRX0P, 30 NC, 31 GND, 32 E1LED1, 33 B35IO0, 34 E1LED0, 35 B35IO1, 36 B35IO23, 37 B35IO2, 38 B35IO24, 39 B35IO3, 40 B35IO25, 41 B35IO4, 42 B35IO26, 43 B35IO5, 44 B35IO27, 45 B35IO6, 46 B35IO28, 47 B35IO7, 48 B35IO29, 49 V18O, 50 GND, 51 B35IO8, 52 SIN_P, 53 B35IO9, 54 SIN_N, 55 B35IO10, 56 GND, 57 PHYLED1, 58 SOUT_P, 59 PHYLED0, 60 SOUT_N, 61 B35IO11, 62 GND, 63 B35IO12, 64 PHY3N, 65 B35IO13, 66 PHY3P, 67 B35IO14, 68 GND, 69 B35IO15, 70 PHY2N, 71 B35IO16, 72 PHY2P, 73 B35IO17, 74 GND, 75 B35IO18, 76 PHY1N, 77 B35IO19, 78 PHY1P, 79 B35IO20, 80 GND, 81 B35IO21, 82 PHY0N, 83 B35IO22, 84 PHY0P, 85 GND, 86 GND, 87 MIO0, 88 MIO9, 89 ST.RST, 90 I2C0SDA, 91 RST.IN, 92 I2C0SCL, 93 I2C1SDA, 94 US0RX, 95 I2C1SCL, 96 US0TX, 97 VBUS.EN, 98 GND, 99 GND, 100 ESD.DAT2, 101 OTG.DP, 102 ESD.DAT3, 103 OTG.DN, 104 ESD.CMD, 105 GND, 106 ESD.CLK, 107 USB.VB, 108 ESD.DAT0, 109 OTG.ID, 110 ESD.DAT1, 111 JTAGSEL, 112 BRD.ST, 113 TMS, 114 BOOT2, 115 TDI, 116 BOOT1, 117 TDO, 118 VBAT.IN, 119 TCK, 120 GND

## Conector B2B 120 pines_Hembra
designator P?
Samtec Hembra 120 pines Pitch 0.8mm; Manufacturer Part-Number: BTE-060-06-L-D-A; Digikey Part-Number: BTE-060-06-L-D-A-ND
footprint BTE-060-06-L-D-A (Conector Samtec 120 pines hembra altura 22mm pitch 0.8mm)
pins: 1, 2 E2TXP, 3 DRXCLKN, 4 E2TXN, 5 DRXCLKP, 6 GND, 7 GND, 8 E2RXP, 9 DRX3N, 10 E2RXN, 11 DRX3P, 12 GND, 13 DRX3P, 14 E2LED1, 15 DRX2N, 16 E2LED0, 17 DRX2P, 18 NC, 19 GND, 20 E1TXP, 21 DRX1N, 22 E1TXN, 23 DRX1P, 24 GND, 25 GND, 26 E1RXP, 27 DRX0N, 28 E1RXN, 29 DRX0P, 30 NC, 31 GND, 32 E1LED1, 33 B35IO0, 34 E1LED0, 35 B35IO1, 36 B35IO23, 37 B35IO2, 38 B35IO24, 39 B35IO3, 40 B35IO25, 41 B35IO4, 42 B35IO26, 43 B35IO5, 44 B35IO27, 45 B35IO6, 46 B35IO28, 47 B35IO7, 48 B35IO29, 49 V18O, 50 GND, 51 B35IO8, 52 SIN_P, 53 B35IO9, 54 SIN_N, 55 B35IO10, 56 GND, 57 PHYLED1, 58 SOUT_P, 59 PHYLED0, 60 SOUT_N, 61 B35IO11, 62 GND, 63 B35IO12, 64 PHY3N, 65 B35IO13, 66 PHY3P, 67 B35IO14, 68 GND, 69 B35IO15, 70 PHY2N, 71 B35IO16, 72 PHY2P, 73 B35IO17, 74 GND, 75 B35IO18, 76 PHY1N, 77 B35IO19, 78 PHY1P, 79 B35IO20, 80 GND, 81 B35IO21, 82 PHY0N, 83 B35IO22, 84 PHY0P, 85 GND, 86 GND, 87 MIO0, 88 MIO9, 89 ST.RST, 90 I2C0SDA, 91 RST.IN, 92 I2C0SCL, 93 I2C1SDA, 94 US0RX, 95 I2C1SCL, 96 US0TX, 97 VBUS.EN, 98 GND, 99 GND, 100 ESD.DAT2, 101 OTG.DP, 102 ESD.DAT3, 103 OTG.DN, 104 ESD.CMD, 105 GND, 106 ESD.CLK, 107 USB.VB, 108 ESD.DAT0, 109 OTG.ID, 110 ESD.DAT1, 111 JTAGSEL, 112 BRD.ST, 113 TMS, 114 BOOT2, 115 TDI, 116 BOOT1, 117 TDO, 118 VBAT.IN, 119 TCK, 120 GND

## Conector B2B 160 pines
designator JB?, comment Conector Samtec Macho
Samtec Macho 160 pines Pitch 0.8mm; Manufacturer Part-Number: BSE-080-01-L-D-A; Digikey Part-Number: SAM10923-ND
footprint Conector BSE-080-01-L-D-A (Conector Samtec de 160 pines Pitch 0.8mm)
pins: 1, 2, 3, 4, 5, 6, 7, 8, 9, 10, 11, 12, 13, 14, 15, 16, 17, 18, 19, 20, 21, 22, 23, 24, 25, 26, 27, 28, 29, 30, 31, 32, 33, 34, 35, 36, 37, 38, 39, 40, 41, 42, 43, 44, 45, 46, 47, 48, 49, 50, 51, 52, 53, 54, 55, 56, 57, 58, 59, 60, 61, 62, 63, 64, 65, 66, 67, 68, 69, 70, 71, 72, 73, 74, 75, 76, 77, 78, 79, 80, 81, 82, 83, 84, 85, 86, 87, 88, 89, 90, 91, 92, 93, 94, 95, 96, 97, 98, 99, 100, 101, 102, 103, 104, 105, 106, 107, 108, 109, 110, 111, 112, 113, 114, 115, 116, 117, 118, 119, 120, 121, 122, 123, 124, 125, 126, 127, 128, 129, 130, 131, 132, 133, 134, 135, 136, 137, 138, 139, 140, 141, 142, 143, 144, 145, 146, 147, 148, 149, 150, 151, 152, 153, 154, 155, 156, 157, 158, 159, 160

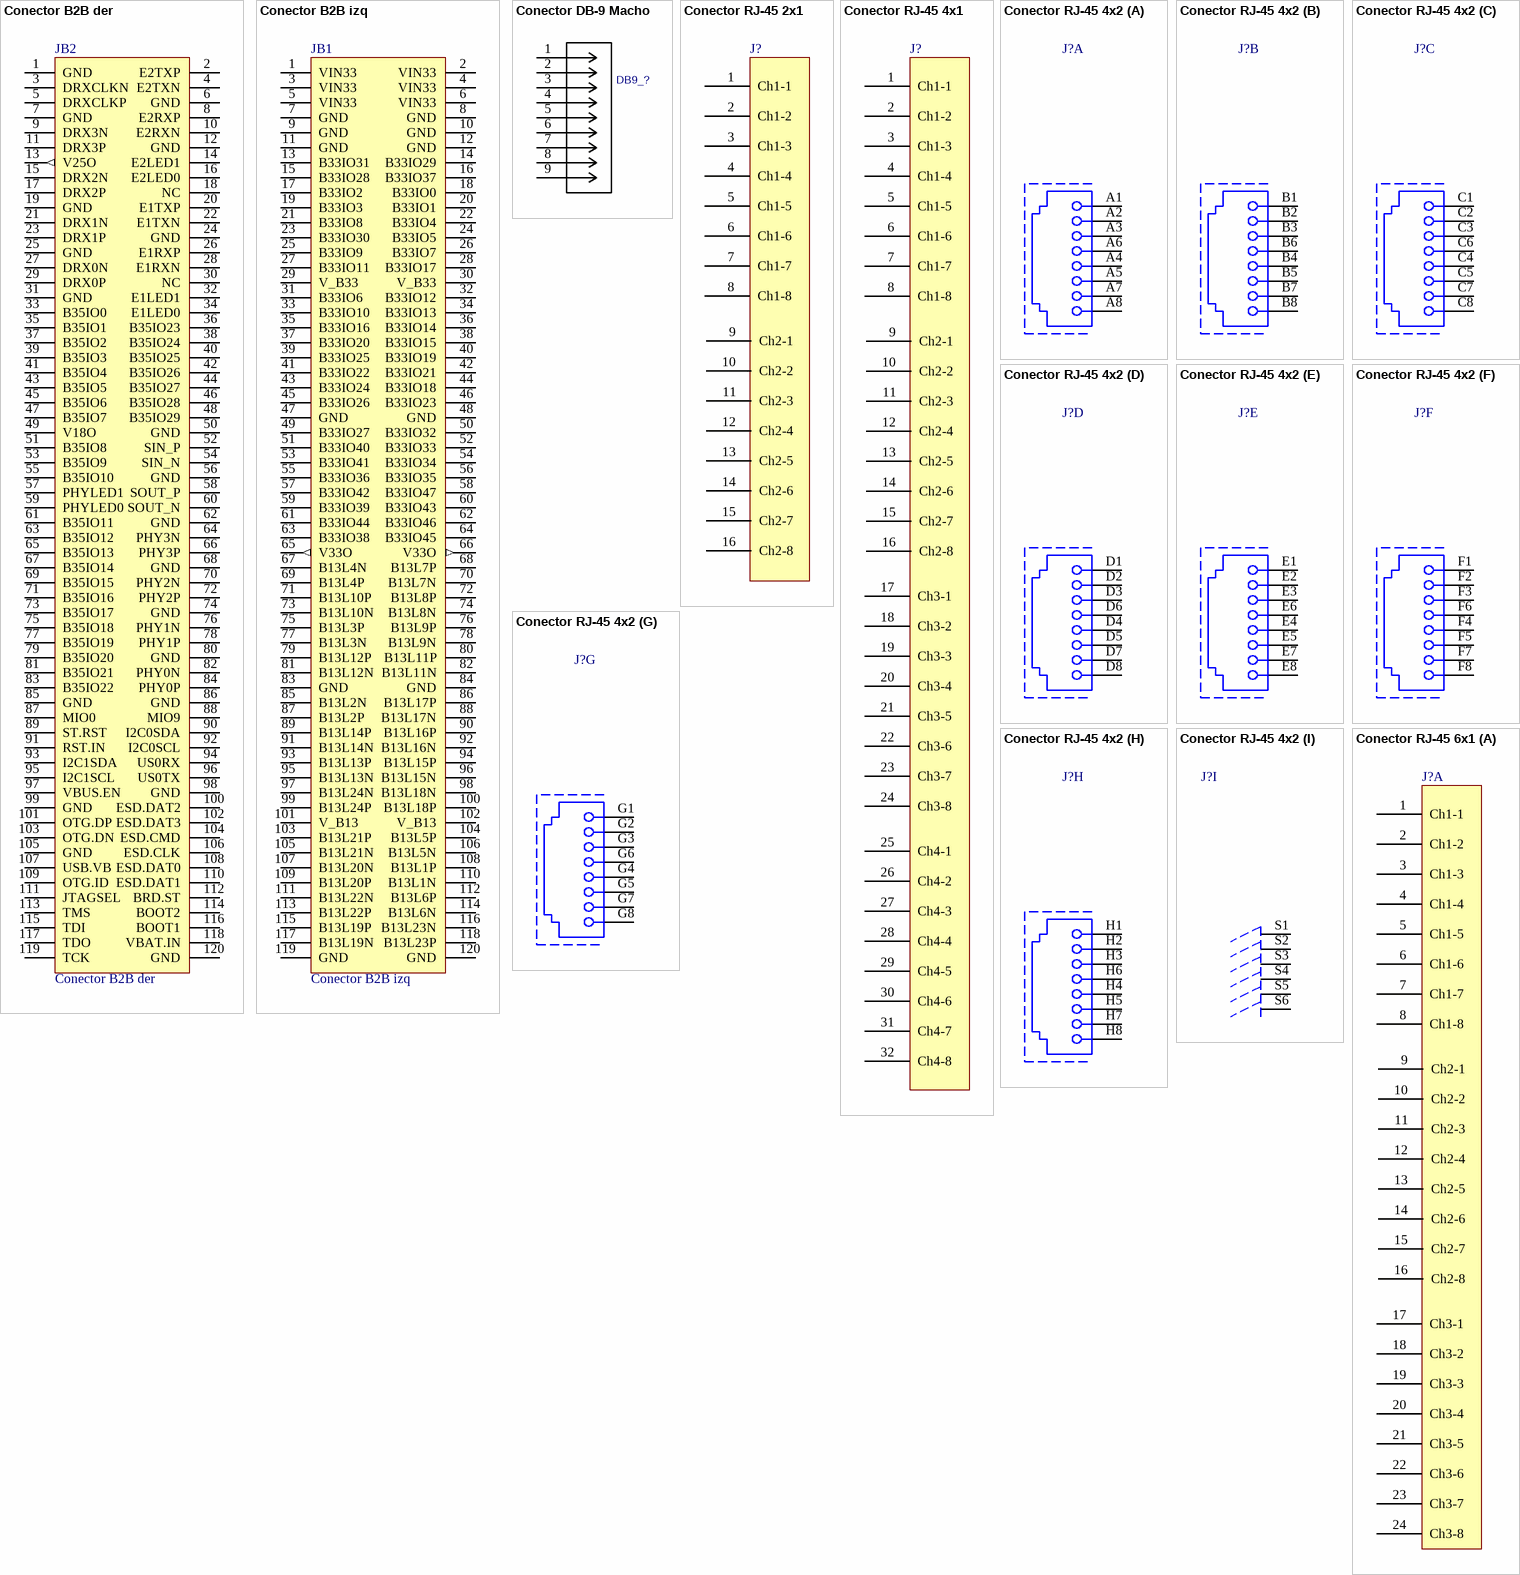
[diagram p3: symbols Conector B2B der to Conector RJ-45 6x1]

## Conector B2B der
designator JB2
Manufacturer Part-Number: BSE-060-01-L-D-A; Digikey Part-Number: SAM9181-ND
footprint BSE-060-01-L-D-A (trenz)
pins: 1 GND, 2 E2TXP, 3 DRXCLKN, 4 E2TXN, 5 DRXCLKP, 6 GND, 7 GND, 8 E2RXP, 9 DRX3N, 10 E2RXN, 11 DRX3P, 12 GND, 13 V25O (out), 14 E2LED1, 15 DRX2N, 16 E2LED0, 17 DRX2P, 18 NC, 19 GND, 20 E1TXP, 21 DRX1N, 22 E1TXN, 23 DRX1P, 24 GND, 25 GND, 26 E1RXP, 27 DRX0N, 28 E1RXN, 29 DRX0P, 30 NC, 31 GND, 32 E1LED1, 33 B35IO0, 34 E1LED0, 35 B35IO1, 36 B35IO23, 37 B35IO2, 38 B35IO24, 39 B35IO3, 40 B35IO25, 41 B35IO4, 42 B35IO26, 43 B35IO5, 44 B35IO27, 45 B35IO6, 46 B35IO28, 47 B35IO7, 48 B35IO29, 49 V18O, 50 GND, 51 B35IO8, 52 SIN_P, 53 B35IO9, 54 SIN_N, 55 B35IO10, 56 GND, 57 PHYLED1, 58 SOUT_P, 59 PHYLED0, 60 SOUT_N, 61 B35IO11, 62 GND, 63 B35IO12, 64 PHY3N, 65 B35IO13, 66 PHY3P, 67 B35IO14, 68 GND, 69 B35IO15, 70 PHY2N, 71 B35IO16, 72 PHY2P, 73 B35IO17, 74 GND, 75 B35IO18, 76 PHY1N, 77 B35IO19, 78 PHY1P, 79 B35IO20, 80 GND, 81 B35IO21, 82 PHY0N, 83 B35IO22, 84 PHY0P, 85 GND, 86 GND, 87 MIO0, 88 MIO9, 89 ST.RST, 90 I2C0SDA, 91 RST.IN, 92 I2C0SCL, 93 I2C1SDA, 94 US0RX, 95 I2C1SCL, 96 US0TX, 97 VBUS.EN, 98 GND, 99 GND, 100 ESD.DAT2, 101 OTG.DP, 102 ESD.DAT3, 103 OTG.DN, 104 ESD.CMD, 105 GND, 106 ESD.CLK, 107 USB.VB, 108 ESD.DAT0, 109 OTG.ID, 110 ESD.DAT1, 111 JTAGSEL, 112 BRD.ST, 113 TMS, 114 BOOT2, 115 TDI, 116 BOOT1, 117 TDO, 118 VBAT.IN, 119 TCK, 120 GND

## Conector B2B izq
designator JB1
Manufacturer Part-Number: BSE-060-01-L-D-A; Digikey Part-Number: SAM9181-ND
footprint BSE-060-01-L-D-A (trenz)
pins: 1 VIN33, 2 VIN33, 3 VIN33, 4 VIN33, 5 VIN33, 6 VIN33, 7 GND, 8 GND, 9 GND, 10 GND, 11 GND, 12 GND, 13 B33IO31, 14 B33IO29, 15 B33IO28, 16 B33IO37, 17 B33IO2, 18 B33IO0, 19 B33IO3, 20 B33IO1, 21 B33IO8, 22 B33IO4, 23 B33IO30, 24 B33IO5, 25 B33IO9, 26 B33IO7, 27 B33IO11, 28 B33IO17, 29 V_B33, 30 V_B33, 31 B33IO6, 32 B33IO12, 33 B33IO10, 34 B33IO13, 35 B33IO16, 36 B33IO14, 37 B33IO20, 38 B33IO15, 39 B33IO25, 40 B33IO19, 41 B33IO22, 42 B33IO21, 43 B33IO24, 44 B33IO18, 45 B33IO26, 46 B33IO23, 47 GND, 48 GND, 49 B33IO27, 50 B33IO32, 51 B33IO40, 52 B33IO33, 53 B33IO41, 54 B33IO34, 55 B33IO36, 56 B33IO35, 57 B33IO42, 58 B33IO47, 59 B33IO39, 60 B33IO43, 61 B33IO44, 62 B33IO46, 63 B33IO38, 64 B33IO45, 65 V33O (out), 66 V33O (out), 67 B13L4N, 68 B13L7P, 69 B13L4P, 70 B13L7N, 71 B13L10P, 72 B13L8P, 73 B13L10N, 74 B13L8N, 75 B13L3P, 76 B13L9P, 77 B13L3N, 78 B13L9N, 79 B13L12P, 80 B13L11P, 81 B13L12N, 82 B13L11N, 83 GND, 84 GND, 85 B13L2N, 86 B13L17P, 87 B13L2P, 88 B13L17N, 89 B13L14P, 90 B13L16P, 91 B13L14N, 92 B13L16N, 93 B13L13P, 94 B13L15P, 95 B13L13N, 96 B13L15N, 97 B13L24N, 98 B13L18N, 99 B13L24P, 100 B13L18P, 101 V_B13, 102 V_B13, 103 B13L21P, 104 B13L5P, 105 B13L21N, 106 B13L5N, 107 B13L20N, 108 B13L1P, 109 B13L20P, 110 B13L1N, 111 B13L22N, 112 B13L6P, 113 B13L22P, 114 B13L6N, 115 B13L19P, 116 B13L23N, 117 B13L19N, 118 B13L23P, 119 GND, 120 GND

## Conector DB-9 Macho
designator DB9_?  (value not drawn)
DB-9 para RS-232; Manufacturer: TE Connectivity AMP Connectors; C: Copyright (C) 2015 Accelerated Designs. All rights reserved; Value: 3-338309-2; Vendor: TE Connectivity; Built_By: EMA_UL_Team; Supplier 1: Digi-Key; Digikey Part-Number: A35169-ND; Manufacturer Part-Number: 3-338309-2; Supplier 2: RS; Unit Price (USD): *
footprint Conector DB-9 Macho (P/N: 3-338309-2)
pins: 1, 2, 3, 4, 5, 6, 7, 8, 9
2 alternate drawings of the same symbol

## Conector RJ-45 2x1
designator J?
Conector RJ-45 2x1; Manufacturer Part-Number: 5406566-1; Digikey Part-Number: 5406566-1-ND
footprint RJ45 - 2x1 (2 conectores RJ-45)
pins: 1 Ch1-1, 2 Ch1-2, 3 Ch1-3, 4 Ch1-4, 5 Ch1-5, 6 Ch1-6, 7 Ch1-7, 8 Ch1-8, 9 Ch2-1, 10 Ch2-2, 11 Ch2-3, 12 Ch2-4, 13 Ch2-5, 14 Ch2-6, 15 Ch2-7, 16 Ch2-8

## Conector RJ-45 4x1
designator J?
Conector RJ-45 4x1; Digikey Part-Number: 6339167-3-ND
footprint RJ45 - 4x1 (4 conectores RJ-45)
pins: 1 Ch1-1, 2 Ch1-2, 3 Ch1-3, 4 Ch1-4, 5 Ch1-5, 6 Ch1-6, 7 Ch1-7, 8 Ch1-8, 9 Ch2-1, 10 Ch2-2, 11 Ch2-3, 12 Ch2-4, 13 Ch2-5, 14 Ch2-6, 15 Ch2-7, 16 Ch2-8, 17 Ch3-1, 18 Ch3-2, 19 Ch3-3, 20 Ch3-4, 21 Ch3-5, 22 Ch3-6, 23 Ch3-7, 24 Ch3-8, 25 Ch4-1, 26 Ch4-2, 27 Ch4-3, 28 Ch4-4, 29 Ch4-5, 30 Ch4-6, 31 Ch4-7, 32 Ch4-8

## Conector RJ-45 4x2
designator J?
Conector RJ-45 4x2; Manufacturer Part-Number: 1-1734715-2; Digikey Part-Number: A118195-ND
footprint RJ45 - 4x2 (P/N: 1-1734715-2)
part A pins: A1, A2, A3, A4, A5, A6, A7, A8
part B pins: B1, B2, B3, B4, B5, B6, B7, B8
part C pins: C1, C2, C3, C4, C5, C6, C7, C8
part D pins: D1, D2, D3, D4, D5, D6, D7, D8
part E pins: E1, E2, E3, E4, E5, E6, E7, E8
part F pins: F1, F2, F3, F4, F5, F6, F7, F8
part G pins: G1, G2, G3, G4, G5, G6, G7, G8
part H pins: H1, H2, H3, H4, H5, H6, H7, H8
part I pins: S1, S2, S3, S4, S5, S6

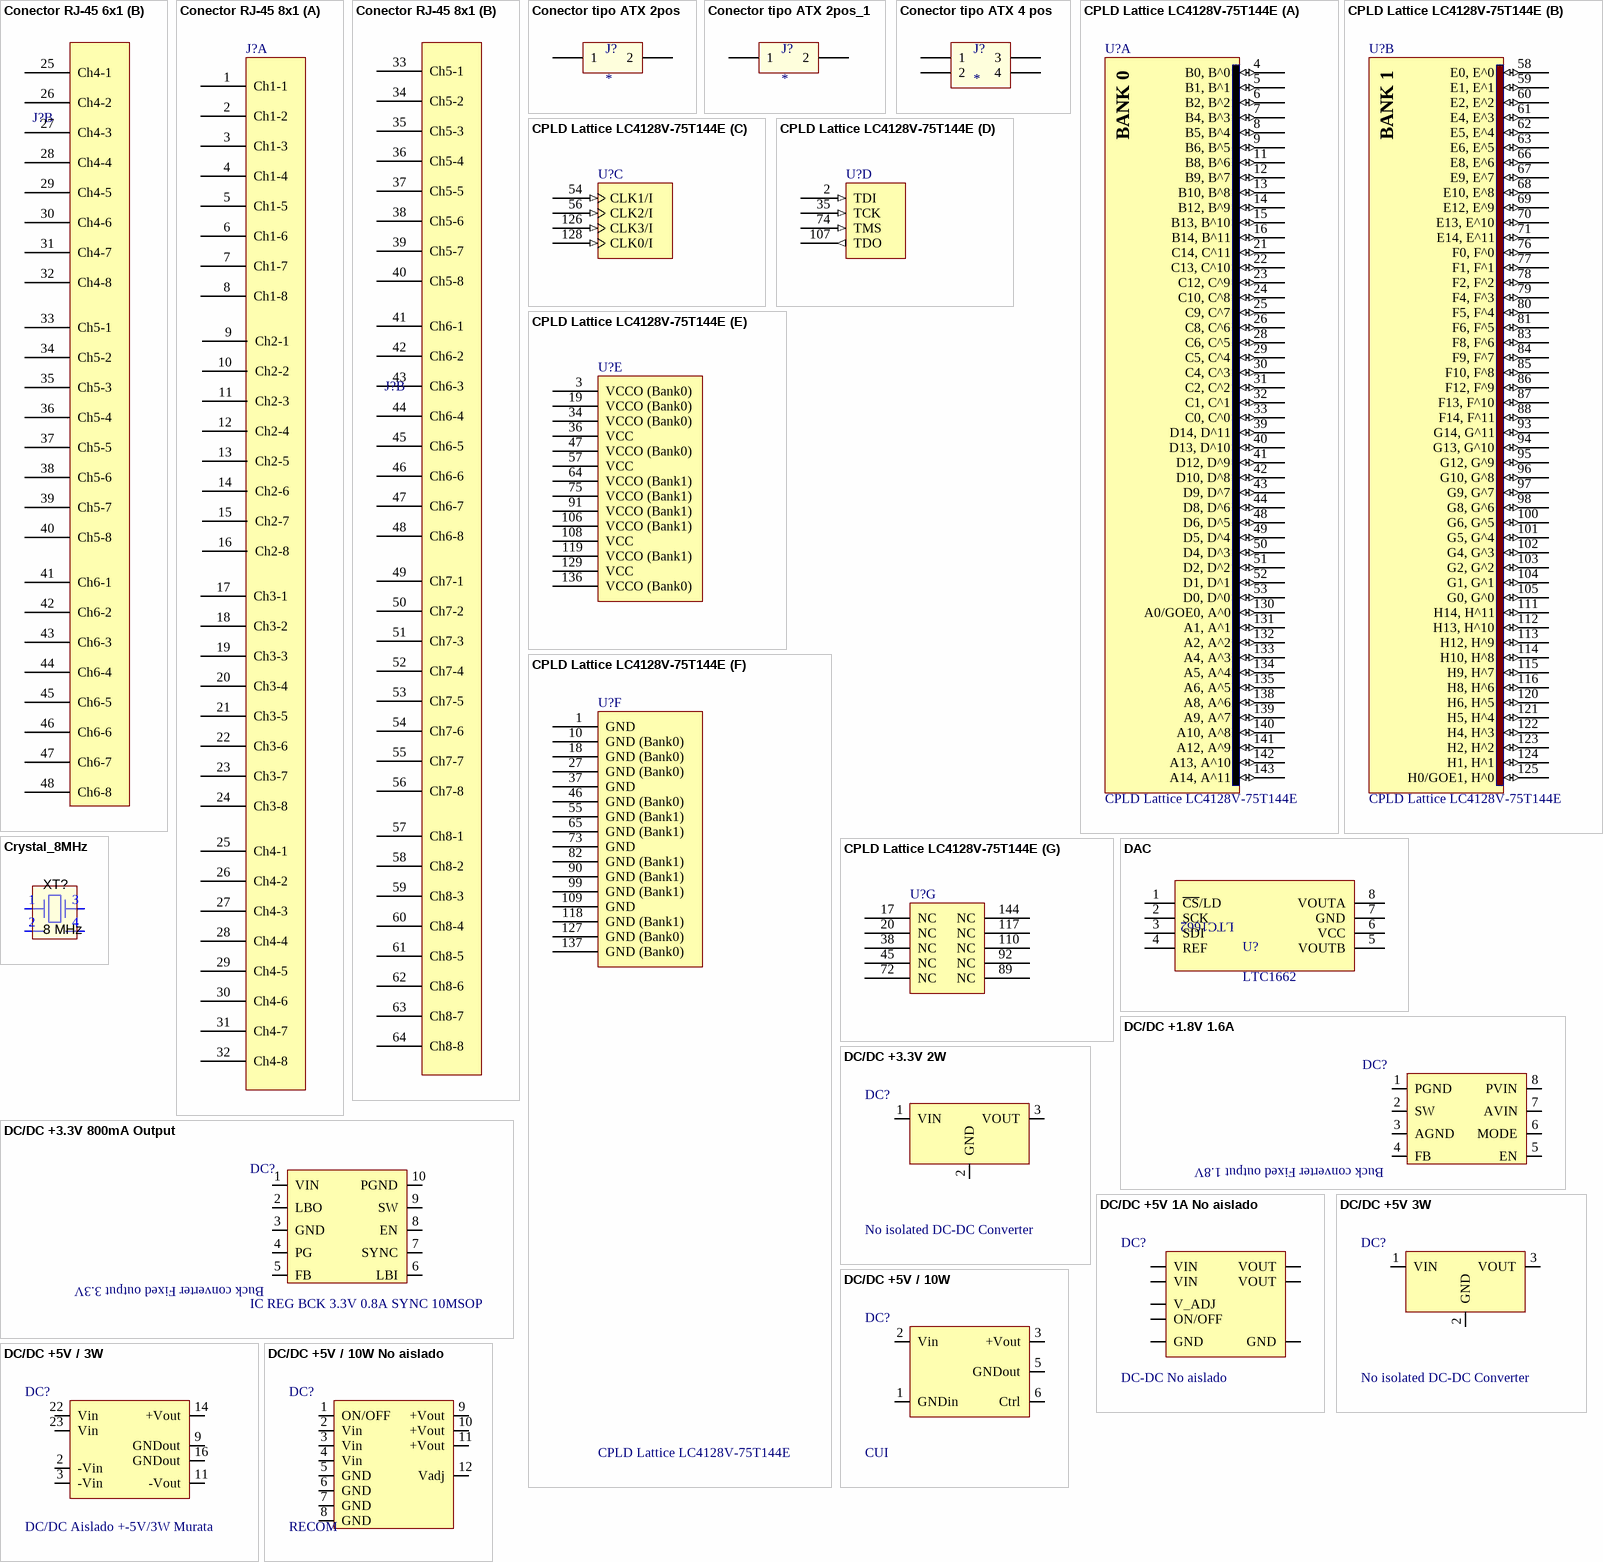
[diagram p4: symbols Conector RJ-45 6x1 to DC/DC +5V / 10W No aislado]

## Conector RJ-45 6x1
designator J?
Conector RJ-45 6x1; Manufacturer Part-Number: 5558525-1; Digikey Part-Number: A31474-ND
footprint RJ45 - 6x1 (6 conectores RJ-45 P/N: 5558525-1)
part A pins: 1 Ch1-1, 2 Ch1-2, 3 Ch1-3, 4 Ch1-4, 5 Ch1-5, 6 Ch1-6, 7 Ch1-7, 8 Ch1-8, 9 Ch2-1, 10 Ch2-2, 11 Ch2-3, 12 Ch2-4, 13 Ch2-5, 14 Ch2-6, 15 Ch2-7, 16 Ch2-8, 17 Ch3-1, 18 Ch3-2, 19 Ch3-3, 20 Ch3-4, 21 Ch3-5, 22 Ch3-6, 23 Ch3-7, 24 Ch3-8
part B pins: 25 Ch4-1, 26 Ch4-2, 27 Ch4-3, 28 Ch4-4, 29 Ch4-5, 30 Ch4-6, 31 Ch4-7, 32 Ch4-8, 33 Ch5-1, 34 Ch5-2, 35 Ch5-3, 36 Ch5-4, 37 Ch5-5, 38 Ch5-6, 39 Ch5-7, 40 Ch5-8, 41 Ch6-1, 42 Ch6-2, 43 Ch6-3, 44 Ch6-4, 45 Ch6-5, 46 Ch6-6, 47 Ch6-7, 48 Ch6-8

## Conector RJ-45 8x1
designator J?
Conector RJ-45 8x1; Digikey Part-Number: A97712-ND
footprint RJ45 - 8x1 (8 conectores RJ-45)
part A pins: 1 Ch1-1, 2 Ch1-2, 3 Ch1-3, 4 Ch1-4, 5 Ch1-5, 6 Ch1-6, 7 Ch1-7, 8 Ch1-8, 9 Ch2-1, 10 Ch2-2, 11 Ch2-3, 12 Ch2-4, 13 Ch2-5, 14 Ch2-6, 15 Ch2-7, 16 Ch2-8, 17 Ch3-1, 18 Ch3-2, 19 Ch3-3, 20 Ch3-4, 21 Ch3-5, 22 Ch3-6, 23 Ch3-7, 24 Ch3-8, 25 Ch4-1, 26 Ch4-2, 27 Ch4-3, 28 Ch4-4, 29 Ch4-5, 30 Ch4-6, 31 Ch4-7, 32 Ch4-8
part B pins: 33 Ch5-1, 34 Ch5-2, 35 Ch5-3, 36 Ch5-4, 37 Ch5-5, 38 Ch5-6, 39 Ch5-7, 40 Ch5-8, 41 Ch6-1, 42 Ch6-2, 43 Ch6-3, 44 Ch6-4, 45 Ch6-5, 46 Ch6-6, 47 Ch6-7, 48 Ch6-8, 49 Ch7-1, 50 Ch7-2, 51 Ch7-3, 52 Ch7-4, 53 Ch7-5, 54 Ch7-6, 55 Ch7-7, 56 Ch7-8, 57 Ch8-1, 58 Ch8-2, 59 Ch8-3, 60 Ch8-4, 61 Ch8-5, 62 Ch8-6, 63 Ch8-7, 64 Ch8-8

## Conector tipo ATX 2pos
designator J?
CONN HEADER VERT 2POS 4.2MM; Manufacturer Part-Number: 64900211122; Digikey Part-Number: 732-4674-ND
footprint Conector tipo ATX Wurth 2 posiciones (Vertical Pitch 4.2 mm (64900211122))
pins: 1, 2

## Conector tipo ATX 2pos_1
designator J?
CONN HEADER VERT 2POS 5.5MM; Manufacturer Part-Number: 64900221122; Digikey Part-Number: 732-1927-ND
footprint Conector tipo ATX Wurth 2 posiciones - (5.5mm) (Vertical Pitch 5.5 mm (64900221122))
pins: 1, 2

## Conector tipo ATX 4 pos
designator J?
CONN HEADER VERT 4POS 4.2MM; Manufacturer Part-Number: 64900421122; Digikey Part-Number: 732-1928-ND
footprint Conector tipo ATX Wurth 4 posiciones (Vertical Pitch 4.2x5.5 mm)
pins: 1, 2, 3, 4

## CPLD Lattice LC4128V-75T144E
designator U?
ispMACH 4128 SuperFAST High Density PLD, 3.3 V, 96 User I/Os, 144-Pin TQFP, 7.5 ns, Automotive Grade; Manufacturer Part-Number: LA4128V-75TN144E; Published: 17-Dec-2003; LatestRevisionDate: 30-Mar-2007; LatestRevisionNote: Banks placed in parts.; DatasheetVersion: ver22.3, Mar-2007; PackageVersion: ver01.2 Feb-2007; PackageReference: TQFP144; Publisher: Altium Limited; PackageDescription: 144-Pin Thin Quad Flat Pack (TQFP144); Code_JEDEC: MS-026-BFB; ComponentLink1Description: Manufacturer Link; ComponentLink1URL: http://www.latticesemi.com/; ComponentLink2Description: Datasheet; ComponentLink2URL: http://www.latticesemi.com/dynamic/view_document.cfm?document_id=3646; Digikey Part-Number: LA4128V-75TN144E-ND
footprint 144-TQFP (Thin QFP, 144-Leads, Body 20x20mm, Pitch 0.5mm, IPC High Density)
part A pins: 4 B0, B^0 (io) "General purpose I/O.", 5 B1, B^1 (io) "General purpose I/O.", 6 B2, B^2 (io) "General purpose I/O.", 7 B4, B^3 (io) "General purpose I/O.", 8 B5, B^4 (io) "General purpose I/O.", 9 B6, B^5 (io) "General purpose I/O.", 11 B8, B^6 (io) "General purpose I/O.", 12 B9, B^7 (io) "General purpose I/O.", 13 B10, B^8 (io) "General purpose I/O.", 14 B12, B^9 (io) "General purpose I/O.", 15 B13, B^10 (io) "General purpose I/O.", 16 B14, B^11 (io) "General purpose I/O.", 21 C14, C^11 (io) "General purpose I/O.", 22 C13, C^10 (io) "General purpose I/O.", 23 C12, C^9 (io) "General purpose I/O.", 24 C10, C^8 (io) "General purpose I/O.", 25 C9, C^7 (io) "General purpose I/O.", 26 C8, C^6 (io) "General purpose I/O.", 28 C6, C^5 (io) "General purpose I/O.", 29 C5, C^4 (io) "General purpose I/O.", 30 C4, C^3 (io) "General purpose I/O.", 31 C2, C^2 (io) "General purpose I/O.", 32 C1, C^1 (io) "General purpose I/O.", 33 C0, C^0 (io) "General purpose I/O.", 39 D14, D^11 (io) "General purpose I/O.", 40 D13, D^10 (io) "General purpose I/O.", 41 D12, D^9 (io) "General purpose I/O.", 42 D10, D^8 (io) "General purpose I/O.", 43 D9, D^7 (io) "General purpose I/O.", 44 D8, D^6 (io) "General purpose I/O.", 48 D6, D^5 (io) "General purpose I/O.", 49 D5, D^4 (io) "General purpose I/O.", 50 D4, D^3 (io) "General purpose I/O.", 51 D2, D^2 (io) "General purpose I/O.", 52 D1, D^1 (io) "General purpose I/O.", 53 D0, D^0 (io) "General purpose I/O.", 130 A0/GOE0, A^0 (io) "Either Global Output Enable Input or general I/O.", 131 A1, A^1 (io) "General purpose I/O.", 132 A2, A^2 (io) "General purpose I/O.", 133 A4, A^3 (io) "General purpose I/O.", 134 A5, A^4 (io) "General purpose I/O.", 135 A6, A^5 (io) "General purpose I/O.", 138 A8, A^6 (io) "General purpose I/O.", 139 A9, A^7 (io) "General purpose I/O.", 140 A10, A^8 (io) "General purpose I/O.", 141 A12, A^9 (io) "General purpose I/O.", 142 A13, A^10 (io) "General purpose I/O.", 143 A14, A^11 (io) "General purpose I/O."
part B pins: 58 E0, E^0 (io) "General purpose I/O.", 59 E1, E^1 (io) "General purpose I/O.", 60 E2, E^2 (io) "General purpose I/O.", 61 E4, E^3 (io) "General purpose I/O.", 62 E5, E^4 (io) "General purpose I/O.", 63 E6, E^5 (io) "General purpose I/O.", 66 E8, E^6 (io) "General purpose I/O.", 67 E9, E^7 (io) "General purpose I/O.", 68 E10, E^8 (io) "General purpose I/O.", 69 E12, E^9 (io) "General purpose I/O.", 70 E13, E^10 (io) "General purpose I/O.", 71 E14, E^11 (io) "General purpose I/O.", 76 F0, F^0 (io) "General purpose I/O.", 77 F1, F^1 (io) "General purpose I/O.", 78 F2, F^2 (io) "General purpose I/O.", 79 F4, F^3 (io) "General purpose I/O.", 80 F5, F^4 (io) "General purpose I/O.", 81 F6, F^5 (io) "General purpose I/O.", 83 F8, F^6 (io) "General purpose I/O.", 84 F9, F^7 (io) "General purpose I/O.", 85 F10, F^8 (io) "General purpose I/O.", 86 F12, F^9 (io) "General purpose I/O.", 87 F13, F^10 (io) "General purpose I/O.", 88 F14, F^11 (io) "General purpose I/O.", 93 G14, G^11 (io) "General purpose I/O.", 94 G13, G^10 (io) "General purpose I/O.", 95 G12, G^9 (io) "General purpose I/O.", 96 G10, G^8 (io) "General purpose I/O.", 97 G9, G^7 (io) "General purpose I/O.", 98 G8, G^6 (io) "General purpose I/O.", 100 G6, G^5 (io) "General purpose I/O.", 101 G5, G^4 (io) "General purpose I/O.", 102 G4, G^3 (io) "General purpose I/O.", 103 G2, G^2 (io) "General purpose I/O.", 104 G1, G^1 (io) "General purpose I/O.", 105 G0, G^0 (io) "General purpose I/O.", 111 H14, H^11 (io) "General purpose I/O.", 112 H13, H^10 (io) "General purpose I/O.", 113 H12, H^9 (io) "General purpose I/O.", 114 H10, H^8 (io) "General purpose I/O.", 115 H9, H^7 (io) "General purpose I/O.", 116 H8, H^6 (io) "General purpose I/O.", 120 H6, H^5 (io) "General purpose I/O.", 121 H5, H^4 (io) "General purpose I/O.", 122 H4, H^3 (io) "General purpose I/O.", 123 H2, H^2 (io) "General purpose I/O.", 124 H1, H^1 (io) "General purpose I/O.", 125 H0/GOE1, H^0 (io) "Either Global Output Enable Input or general I/O."
part C pins: 54 CLK1/I (in) "Either CLK input or input.", 56 CLK2/I (in) "Either CLK input or input.", 126 CLK3/I (in) "Either CLK input or input.", 128 CLK0/I (in) "Either CLK input or input."
part D pins: 2 TDI (in) "Test Data Input. Loads data into device using 1149.1 state machine.", 35 TCK (in) "Test Clock Input for 1149.1 state machine.", 74 TMS (in) "Test Mode Select Input to control 1149.1 state machine.", 107 TDO (out) "Test Data Output. Shifts data out of device using 1149.1."
part E pins: 3 VCCO (Bank0) (power) "Power supply pin for I/O bank.", 19 VCCO (Bank0) (power) "Power supply pin for I/O bank.", 34 VCCO (Bank0) (power) "Power supply pin for I/O bank.", 36 VCC (power) "Power supply for logic core and JTAG port.", 47 VCCO (Bank0) (power) "Power supply pin for I/O bank.", 57 VCC (power) "Power supply for logic core and JTAG port.", 64 VCCO (Bank1) (power) "Power supply pin for I/O bank.", 75 VCCO (Bank1) (power) "Power supply pin for I/O bank.", 91 VCCO (Bank1) (power) "Power supply pin for I/O bank.", 106 VCCO (Bank1) (power) "Power supply pin for I/O bank.", 108 VCC (power) "Power supply for logic core and JTAG port.", 119 VCCO (Bank1) (power) "Power supply pin for I/O bank.", 129 VCC (power) "Power supply for logic core and JTAG port.", 136 VCCO (Bank0) (power) "Power supply pin for I/O bank."
part F pins: 1 GND (power) "Ground", 10 GND (Bank0) (power) "I/O Ground", 18 GND (Bank0) (power) "I/O Ground", 27 GND (Bank0) (power) "I/O Ground", 37 GND (power) "Ground", 46 GND (Bank0) (power) "I/O Ground", 55 GND (Bank1) (power) "I/O Ground", 65 GND (Bank1) (power) "I/O Ground", 73 GND (power) "Ground", 82 GND (Bank1) (power) "I/O Ground", 90 GND (Bank1) (power) "I/O Ground", 99 GND (Bank1) (power) "I/O Ground", 109 GND (power) "Ground", 118 GND (Bank1) (power) "I/O Ground", 127 GND (Bank0) (power) "I/O Ground", 137 GND (Bank0) (power) "I/O Ground"
part G pins: 17 NC "Not Connected.", 20 NC "Not Connected.", 38 NC "Not Connected.", 45 NC "Not Connected.", 72 NC "Not Connected.", 89 NC "Not Connected.", 92 NC "Not Connected.", 110 NC "Not Connected.", 117 NC "Not Connected.", 144 NC "Not Connected."
part A text: BANK 0
part B text: BANK 1

## Crystal_8MHz
designator XT?, comment 8 MHz
CRYSTAL 8MHZ 18PF SMD; Manufacturer Part-Number: ECS-80-18-30B-AGN-TR; Digikey Part-Number: XC2709CT-ND
footprint CRYSTALOSC
pins: 1 IN, 2 GND, 3 OUT, 4 GND

## DAC
designator U?, comment LTC1662
DAC 10bits; Manufacturer Part-Number: LTC1662CMS8; Digikey Part-Number: LTC1662CMS8#PBF-ND
footprint 8-MSOP (8 Leads, Body 3.1x4.5mm (max), Pitch 0.65mm, IPC Medium Density)
pins: 1 ~{CS}/LD, 2 SCK, 3 SDI, 4 REF, 5 VOUTB, 6 VCC, 7 GND, 8 VOUTA

## DC/DC +1.8V 1.6A
designator DC?
DC/DC +1.8V 1.6A; Part-Number Fabricante: 296-38303-1-ND
footprint Buck converter 1.8V (8-WSON)
pins: 1 PGND, 2 SW, 3 AGND, 4 FB, 5 EN, 6 MODE, 7 AVIN, 8 PVIN, 15 NC hidden, 16 NC hidden, 17 NC hidden, 26 NC hidden, 27 NC hidden
text: Buck converter Fixed output 1.8V

## DC/DC +3.3V 2W
designator DC?, comment No isolated DC-DC Converter
DC DC CONVERTER 3.3V 2W; Manufacturer Part-Number: R-78E3.3-0.5; Digikey Part-Number: 945-1661-5-ND
footprint DC/DC 3.3V 2W No aislado (P/N: R-78E3.3-0.5)
pins: 1 VIN, 2 GND, 3 VOUT, 15 NC hidden, 16 NC hidden, 17 NC hidden, 26 NC hidden, 27 NC hidden

## DC/DC +3.3V 800mA Output
designator DC?, comment IC REG BCK 3.3V 0.8A SYNC 10MSOP
DC/DC +3.3V 800mA Output; Part-Number Fabricante: 296-27024-1-ND
footprint 10-MSOP
pins: 1 VIN, 2 LBO, 3 GND, 4 PG, 5 FB, 6 LBI, 7 SYNC, 8 EN, 9 SW, 10 PGND, 15 NC hidden, 16 NC hidden, 17 NC hidden, 26 NC hidden, 27 NC hidden
text: Buck converter Fixed output 3.3V

## DC/DC +5V 1A No aislado
designator DC?, comment DC-DC No aislado
CUI Inc; Manufacturer Part-Number: V78E05-1000-SMT-TR; Digikey Part-Number: 102-5033-1-ND
footprint DC/DC No-Aislado 5V 1A (CUI Inc. P/N: V78E05-1000-SMT-TR)
pins: 1 VIN, 2 VIN, 3 GND, 4 VOUT, 5 VOUT, 6 V_ADJ, 7 GND, 10 ON/OFF, 15 NC hidden, 16 NC hidden, 17 NC hidden, 26 NC hidden, 27 NC hidden

## DC/DC +5V 3W
designator DC?, comment No isolated DC-DC Converter
DC DC CONVERTER 5V 3W; Manufacturer Part-Number: R-78E5.0-0.5; Digikey Part-Number: 945-1648-5-ND
footprint DC/DC 3.3V 2W No aislado (P/N: R-78E3.3-0.5)
pins: 1 VIN, 2 GND, 3 VOUT, 15 NC hidden, 16 NC hidden, 17 NC hidden, 26 NC hidden, 27 NC hidden

## DC/DC +5V / 3W
designator DC?, comment DC/DC Aislado +-5V/3W Murata
DC/DC Isolated +-5V / 3W; Manufacturer Part-Number: NDTD0505C; Digikey Part-Number: 811-1368-5-ND
footprint DC-DC Murata DIP-24 8 pines (P/N: NDTD0505C)
pins: 2 -Vin, 3 -Vin, 9 GNDout, 11 -Vout, 14 +Vout, 15 NC hidden, 16 NC hidden, 16 GNDout, 17 NC hidden, 22 Vin, 23 Vin, 26 NC hidden, 27 NC hidden

## DC/DC +5V / 10W
designator DC?, comment CUI
DC/DC Isolated +5V / 10W; Manufacturer Part-Number: PYB10-Q24-S5; Digikey Part-Number: 102-2896-ND
footprint DC/DC 10W CUI
pins: 1 GNDin, 2 Vin, 3 +Vout, 5 GNDout, 6 Ctrl, 15 NC hidden, 16 NC hidden, 17 NC hidden, 26 NC hidden, 27 NC hidden

## DC/DC +5V / 10W No aislado
designator DC?, comment RECOM
DC/DC No aislado +5V / 10W; Manufacturer Part-Number: R-625.0P; Digikey Part-Number: 945-1603-5-ND
footprint DC/DC 5V 10W No Aislado
pins: 1 ON/OFF, 2 Vin, 3 Vin, 4 Vin, 5 GND, 6 GND, 7 GND, 8 GND, 9 +Vout, 10 +Vout, 11 +Vout, 12 Vadj, 15 NC hidden, 16 NC hidden, 17 NC hidden, 26 NC hidden, 27 NC hidden

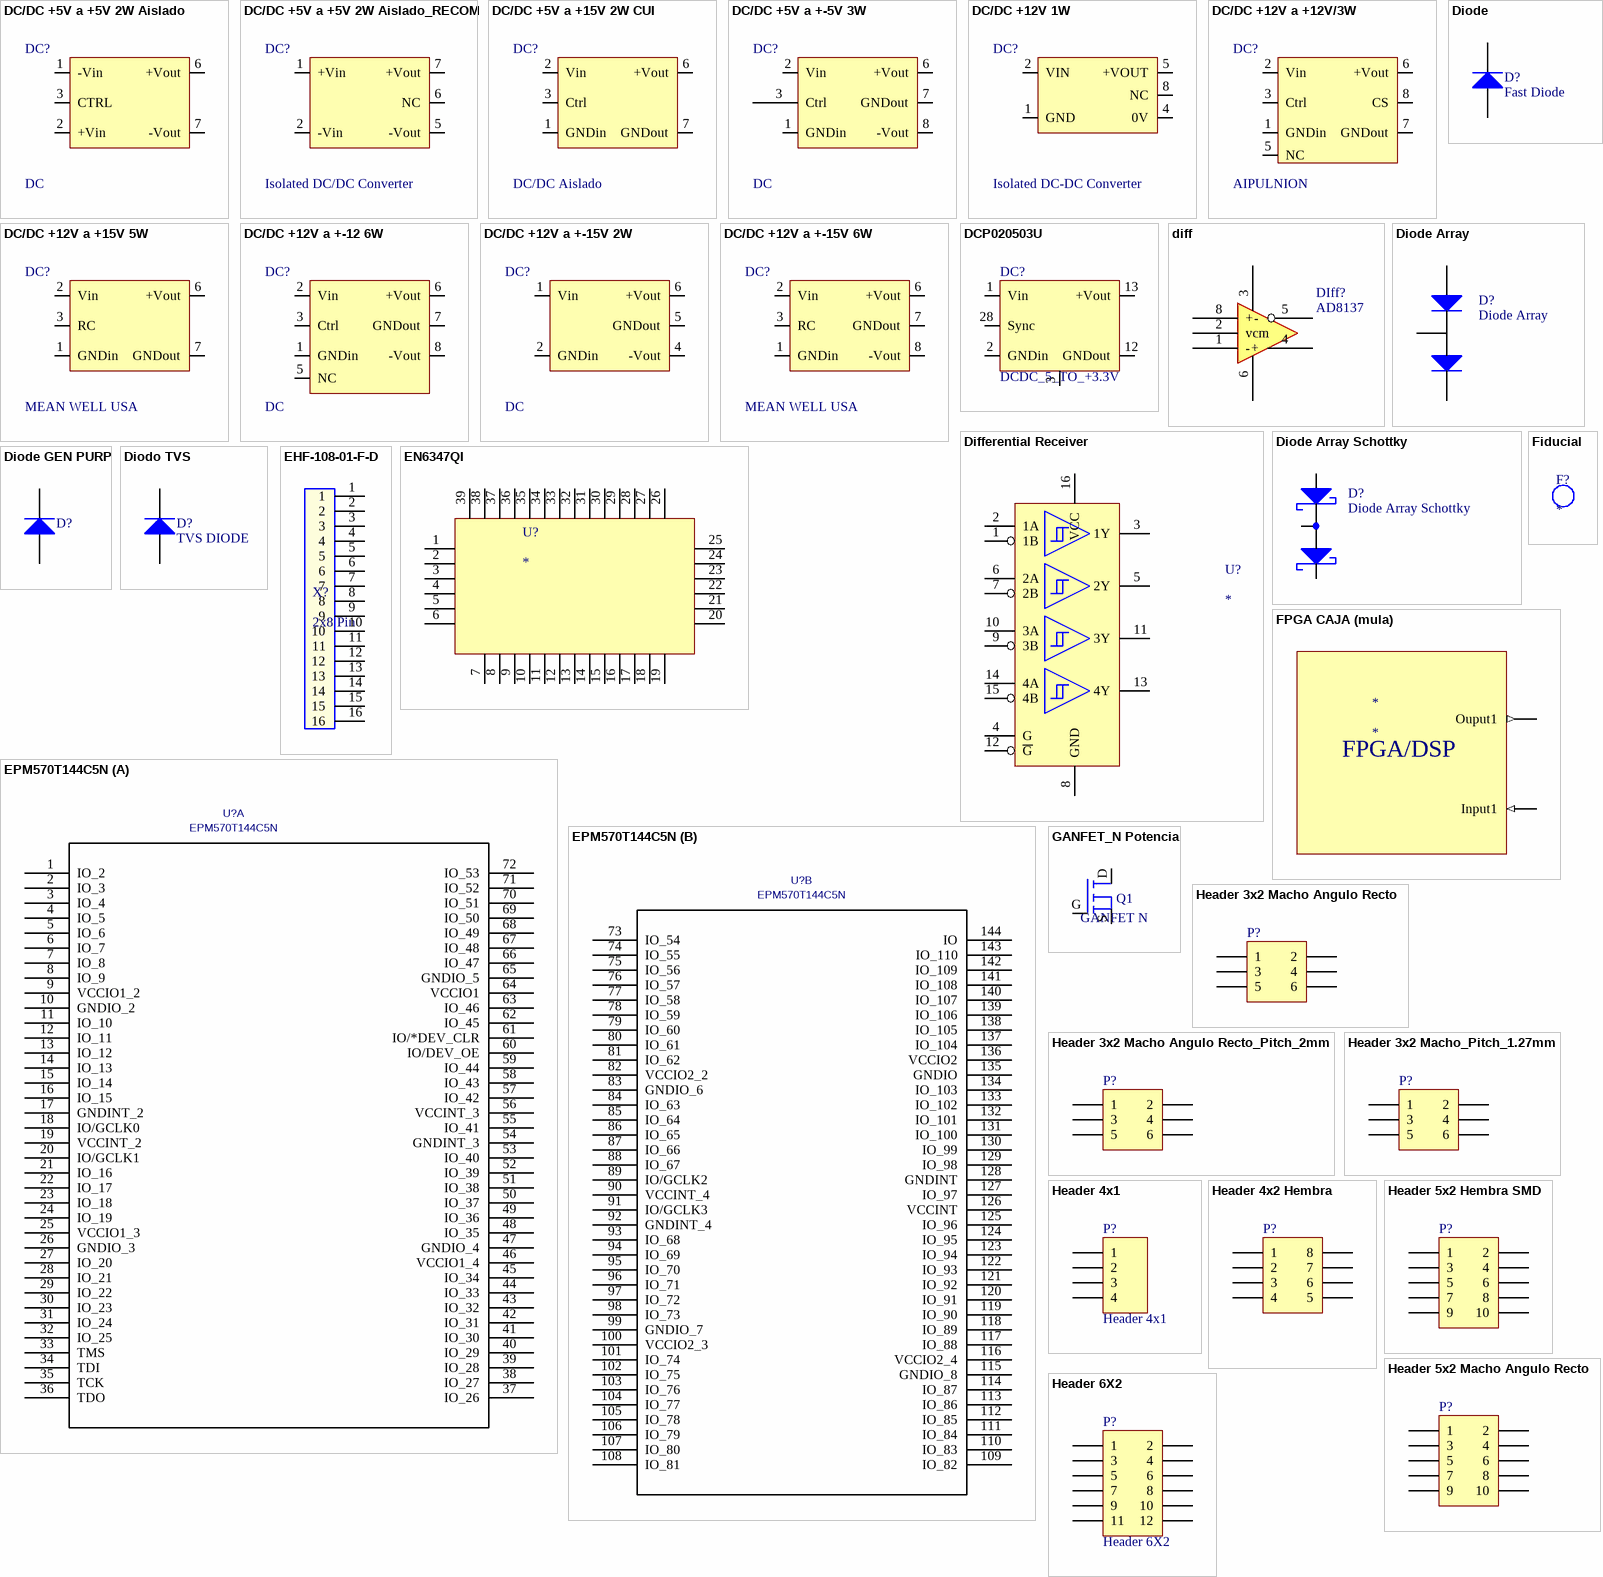
[diagram p5: symbols DC/DC +5V a +5V 2W Aislado to Header 6X2]

## DC/DC +5V a +5V 2W Aislado
designator DC?, comment DC
DC DC CONVERTER 5V 2W; Manufacturer Part-Number: RSE-0505S/H2; Digikey Part-Number: 945-3019-ND
footprint DC/DC +5V to +15V 2W (Marca CUI INC (regulado))
pins: 1 -Vin, 2 +Vin, 3 CTRL, 6 +Vout, 7 -Vout, 15 NC hidden, 16 NC hidden, 17 NC hidden, 26 NC hidden, 27 NC hidden

## DC/DC +5V a +5V 2W Aislado_RECOM
designator DC?, comment Isolated DC/DC Converter
Isolated Module DC DC Converter 1 Output 5V 400mA 21.6V - 26.4V Input; Manufacturer Part-Number: RKZ-2405S/P; Digikey Part-Number: 945-2569-ND
footprint 7-SIP (5 pins)
pins: 1 +Vin, 2 -Vin, 5 -Vout, 6 NC, 7 +Vout, 15 NC hidden, 16 NC hidden, 17 NC hidden, 26 NC hidden, 27 NC hidden

## DC/DC +5V a +15V 2W CUI
designator DC?, comment DC/DC Aislado
DC DC CONVERTER 15V 2W; Manufacturer Part-Number: PDQ2-D5-S15-S; Digikey Part-Number: 102-3958-ND
footprint DC/DC +5V to +15V 2W (Marca CUI INC (regulado))
pins: 1 GNDin, 2 Vin, 3 Ctrl, 6 +Vout, 7 GNDout, 15 NC hidden, 16 NC hidden, 17 NC hidden, 26 NC hidden, 27 NC hidden

## DC/DC +5V a +-5V 3W
designator DC?, comment DC
DC/DC +5V a +-5V 3W; Manufacturer Part-Number: PQMC3-D5-D5-S; Digikey Part-Number: 102-2838-ND
footprint DC/DC +-5V 3W (Marca CUI INC (regulado))
pins: 1 GNDin, 2 Vin, 3 Ctrl, 6 +Vout, 7 GNDout, 8 -Vout, 15 NC hidden, 16 NC hidden, 17 NC hidden, 26 NC hidden, 27 NC hidden

## DC/DC +12V 1W
designator DC?, comment Isolated DC-DC Converter
DC DC CONVERTER 12V 1W; Manufacturer Part-Number: PDS1-S24-S12-M-TR; Digikey Part-Number: 102-3406-1-ND
footprint DC/DC 24V-->12V 1W Aislado (CUI Inc. P/N: PDS1-S24-S12-M-TR)
pins: 1 GND, 2 VIN, 4 0V, 5 +VOUT, 8 NC, 15 NC hidden, 16 NC hidden, 17 NC hidden, 26 NC hidden, 27 NC hidden

## DC/DC +12V a +12V/3W
designator DC?, comment AIPULNION
Isolated Module 1 9V 18V 3W 1.5kVDC 80% Through Hole Power Modules; Manufacturer Part-Number: KW3-12S12E; LCSC Part-Number: C232024; Link: https://lcsc.com/product-detail/Power-Modules_AIPULNION-Guangzhou-Aipu-Elec-Tech-KW3-12S12E_C232024.html
footprint DC/DC +-15V 6W (Marca MEAN WELL (DPBW06F-15))
pins: 1 GNDin, 2 Vin, 3 Ctrl, 5 NC, 6 +Vout, 7 GNDout, 8 CS, 15 NC hidden, 16 NC hidden, 17 NC hidden, 26 NC hidden, 27 NC hidden

## DC/DC +12V a +15V 5W
designator DC?, comment MEAN WELL USA
Isolated Module DC DC Converter 1 Output 15V 333mA 9V - 18V Input; Manufacturer Part-Number: SPB05A-15; Digikey Part-Number: 1866-4794-ND
footprint DC/DC 15V 5W (Marca MEAN WELL (SPB05A-15))
pins: 1 GNDin, 2 Vin, 3 RC, 6 +Vout, 7 GNDout, 15 NC hidden, 16 NC hidden, 17 NC hidden, 26 NC hidden, 27 NC hidden

## DC/DC +12V a +-12 6W
designator DC?, comment DC
DC/DC +12V a +-12V 6W Aislado; RS Part-Number: 124-4216
footprint DC/DC +-15V 6W (Marca MEAN WELL (DPBW06F-15))
pins: 1 GNDin, 2 Vin, 3 Ctrl, 5 NC, 6 +Vout, 7 GNDout, 8 -Vout, 15 NC hidden, 16 NC hidden, 17 NC hidden, 26 NC hidden, 27 NC hidden

## DC/DC +12V a +-15V 2W
designator DC?, comment DC
DC DC CONVERTER +/-15V 2W; Manufacturer Part-Number: PCN2-S12-D15-S; Digikey Part-Number: 102-3938-ND
footprint DC/DC +12V to +-15V 2W (Marca CUI INC (regulado))
pins: 1 Vin, 2 GNDin, 4 -Vout, 5 GNDout, 6 +Vout, 15 NC hidden, 16 NC hidden, 17 NC hidden, 26 NC hidden, 27 NC hidden

## DC/DC +12V a +-15V 6W
designator DC?, comment MEAN WELL USA
Isolated Module DC DC Converter 2 Output 15V -15V 200mA, 200mA 9V - 36V Input; Manufacturer Part-Number: DPBW06F-15; Digikey Part-Number: 1866-1403-ND
footprint DC/DC +-15V 6W (Marca MEAN WELL (DPBW06F-15))
pins: 1 GNDin, 2 Vin, 3 RC, 6 +Vout, 7 GNDout, 8 -Vout, 15 NC hidden, 16 NC hidden, 17 NC hidden, 26 NC hidden, 27 NC hidden

## DCP020503U
designator DC?, comment DCDC_5_TO_+3.3V
DCP020503U; Digikey Part-Number: DCP020503U-ND
footprint DCP020503U (IC REG ISOLATED IN:5V OUT:3.3V)
pins: 1 Vin, 2 GNDin, 3 GNDin, 12 GNDout, 13 +Vout, 15 NC hidden, 16 NC hidden, 17 NC hidden, 26 NC hidden, 27 NC hidden, 28 Sync

## diff
designator DIff?, comment AD8137
AD8137YRZ-REEL7CT-ND; Part-Number Fabricante: AD8137YRZ-REEL7; Digikey Part-Number: AD8137YRZ-REEL7CT-ND
footprint SOIC8_N (SOIC, 8-Leads, Body 4.9x3.9mm, Pitch 1.27mm, IPC Medium Density)
pins: 1 -, 2 vcm, 3, 4 +, 5 -, 6, 8 +

## Differential Receiver
designator U?
Logic Differential to Single Ended; Manufacturer Part-Number: AM26C32MDREP; Digikey Part-Number: 296-23458-1-ND
footprint SOIC-16
pins: 1 1B, 2 1A, 3 1Y, 4 G, 5 2Y, 6 2A, 7 2B, 8 GND, 9 3B, 10 3A, 11 3Y, 12 ~{G}, 13 4Y, 14 4A, 15 4B, 16 VCC

## Diode
designator D?, comment Fast Diode
Manufacturer Part-Number: FFD10UP20S; Published: 8-Jun-2000; LatestRevisionDate: 17-Jul-2002; LatestRevisionNote: Re-released for DXP Platform.; PackageVersion: Sep-1996; PackageReference: SMC; Publisher: Altium Limited; PackageDescription: DO-214-AB/SMC; 2 C-Bend Leads; Body 7.9 x 5.9 mm, inc. leads (LxW); Code_JEDEC: DO-214-AB; Digikey Part-Number: FFD10UP20SCT-ND
simulation model DIODE (Diode)
signal-integrity model Diode
footprint DPAK (TO-252; SC-63)
pins: 1 K, 2 A